# Altium integrated library Xilinx XC9500.IntLib: 208 symbols (part 13 of 16)
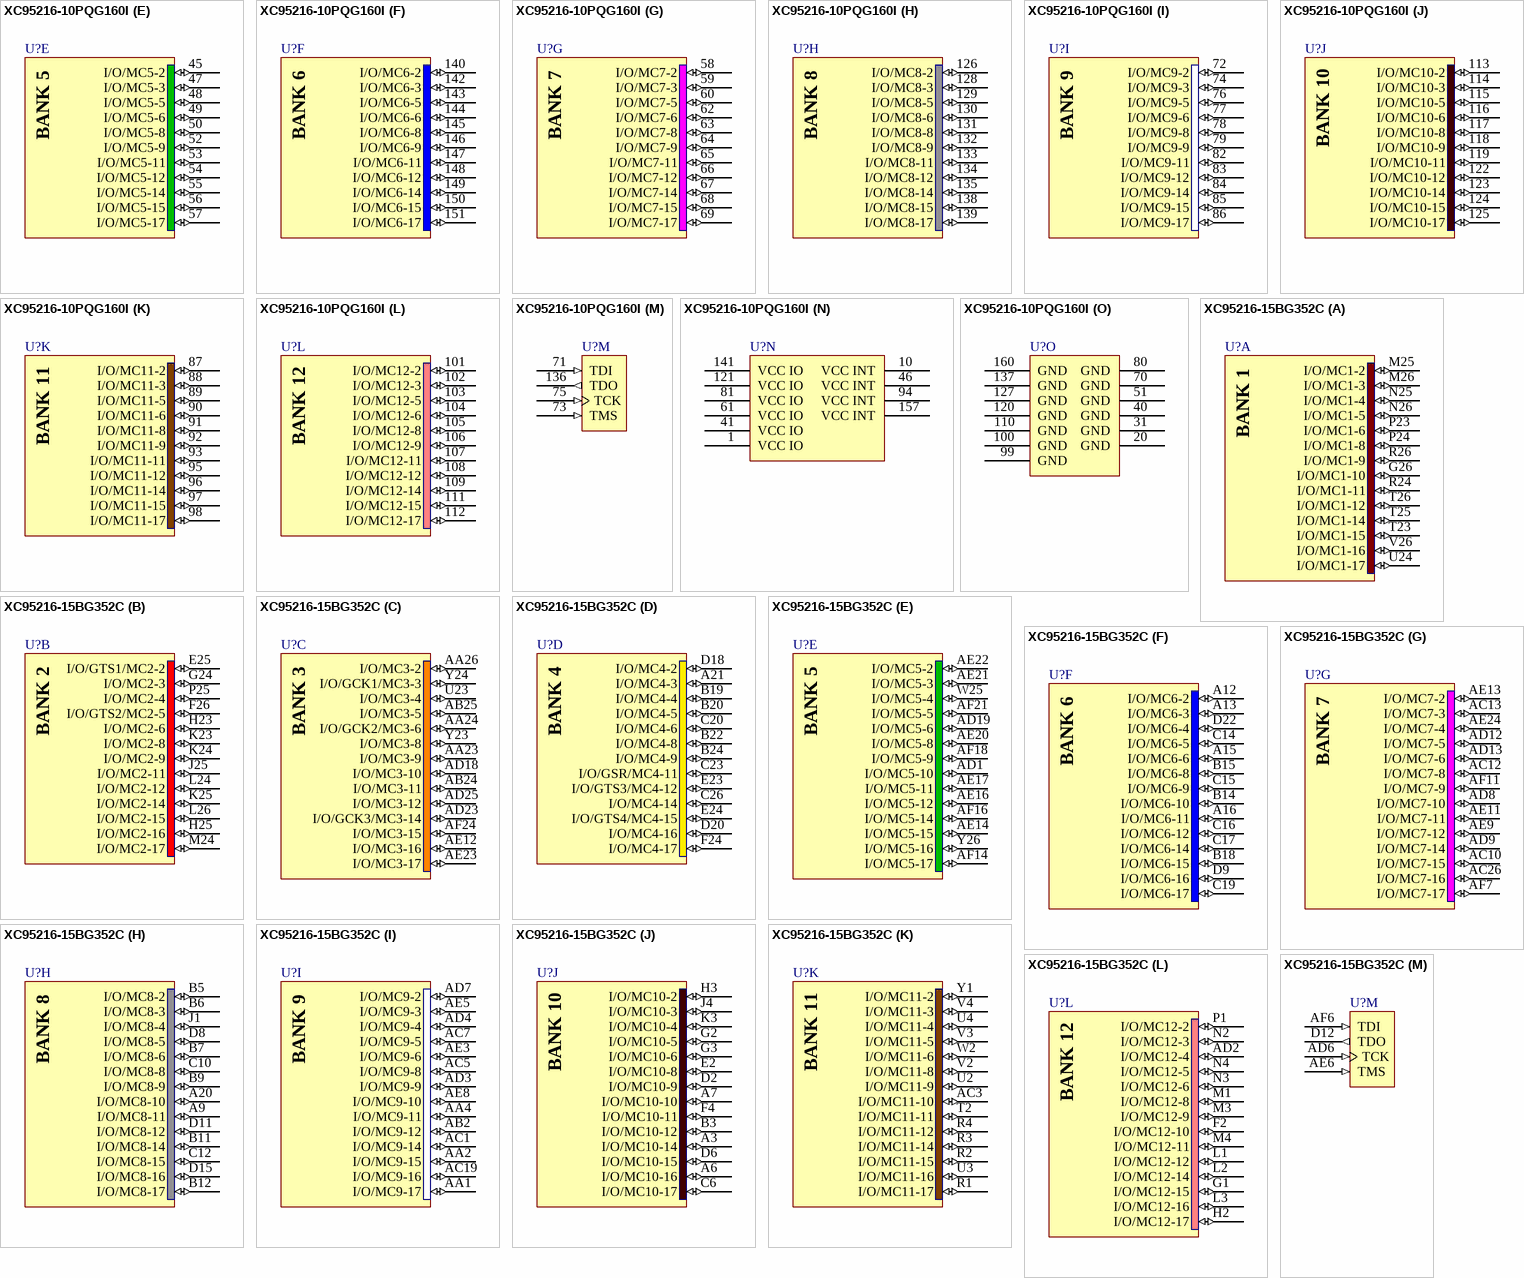
[diagram p85: symbols XC95216-10PQG160I to XC95216-15BG352C]

## XC95216-10PQG160I
designator U?
XC9500 5V, 216 Macrocell CPLD, 133 User I/Os, 160-Pin PQFP, Industrial Grade, Pb-Free; Published: 8-Sep-2006; LatestRevisionDate: 18-Nov-2009; LatestRevisionNote: Updated to family datasheet version 5.5 Jun-2007.; DatasheetVersion: ver4.4, Jun-2007; PackageVersion: ver1.2, Jun-2004; PackageReference: PQG160; Publisher: Altium Limited; PackageDescription: 160-Pin Plastic Quad Flat Pack (PQG160) - Pb-Free; Code_JEDEC: MS-022-DD1; Code_IPC: QFP65P3120X3120-160; ComponentLink1Description: XC95216 Datasheet; ComponentLink1URL: http://www.xilinx.com/support/documentation/data_sheets/ds068.pdf; ComponentLink2Description: PQG160 Package Drawing; ComponentLink2URL: http://www.xilinx.com/support/documentation/package_specs/pq160.pdf; ComponentLink3Description: XC9500 Documents; ComponentLink3URL: http://www.xilinx.com/support/documentation/xc9500.htm; ComponentLink4Description: Xilinx.com Home; ComponentLink4URL: http://www.xilinx.com
footprint PQG160_N (QFP, 160-Leads, Body 28x28mm, Pitch 0.65mm, IPC Medium Density)
footprint PQG160_L (QFP, 160-Leads, Body 28x28mm, Pitch 0.65mm, IPC High Density)
footprint PQG160_M (QFP, 160-Leads, Body 28x28mm, Pitch 0.65mm, IPC Low Density)
signal-integrity model XC95216_PQG160 (XC9500)
part A pins: 18 I/O/MC1-2 (io), 19 I/O/MC1-3 (io), 21 I/O/MC1-5 (io), 22 I/O/MC1-6 (io), 23 I/O/MC1-8 (io), 24 I/O/MC1-9 (io), 25 I/O/MC1-11 (io), 26 I/O/MC1-12 (io), 27 I/O/MC1-14 (io), 28 I/O/MC1-15 (io), 29 I/O/MC1-16 (io), 30 I/O/MC1-17 (io)
part B pins: 6 I/O/GTS1/MC2-2 (io), 7 I/O/MC2-3 (io), 8 I/O/GTS2/MC2-5 (io), 9 I/O/MC2-6 (io), 11 I/O/MC2-8 (io), 12 I/O/MC2-9 (io), 13 I/O/MC2-11 (io), 14 I/O/MC2-12 (io), 15 I/O/MC2-14 (io), 16 I/O/MC2-15 (io), 17 I/O/MC2-17 (io)
part C pins: 32 I/O/MC3-2 (io), 33 I/O/GCK1/MC3-3 (io), 34 I/O/MC3-5 (io), 35 I/O/GCK2/MC3-6 (io), 36 I/O/MC3-8 (io), 37 I/O/MC3-9 (io), 38 I/O/MC3-11 (io), 39 I/O/MC3-12 (io), 42 I/O/GCK3/MC3-14 (io), 43 I/O/MC3-15 (io), 44 I/O/MC3-17 (io)
part D pins: 2 I/O/GTS3/MC4-12 (io), 3 I/O/MC4-14 (io), 4 I/O/GTS4/MC4-15 (io), 5 I/O/MC4-17 (io), 152 I/O/MC4-2 (io), 153 I/O/MC4-3 (io), 154 I/O/MC4-5 (io), 155 I/O/MC4-6 (io), 156 I/O/MC4-8 (io), 158 I/O/MC4-9 (io), 159 I/O/GSR/MC4-11 (io)
part E pins: 45 I/O/MC5-2 (io), 47 I/O/MC5-3 (io), 48 I/O/MC5-5 (io), 49 I/O/MC5-6 (io), 50 I/O/MC5-8 (io), 52 I/O/MC5-9 (io), 53 I/O/MC5-11 (io), 54 I/O/MC5-12 (io), 55 I/O/MC5-14 (io), 56 I/O/MC5-15 (io), 57 I/O/MC5-17 (io)
part F pins: 140 I/O/MC6-2 (io), 142 I/O/MC6-3 (io), 143 I/O/MC6-5 (io), 144 I/O/MC6-6 (io), 145 I/O/MC6-8 (io), 146 I/O/MC6-9 (io), 147 I/O/MC6-11 (io), 148 I/O/MC6-12 (io), 149 I/O/MC6-14 (io), 150 I/O/MC6-15 (io), 151 I/O/MC6-17 (io)
part G pins: 58 I/O/MC7-2 (io), 59 I/O/MC7-3 (io), 60 I/O/MC7-5 (io), 62 I/O/MC7-6 (io), 63 I/O/MC7-8 (io), 64 I/O/MC7-9 (io), 65 I/O/MC7-11 (io), 66 I/O/MC7-12 (io), 67 I/O/MC7-14 (io), 68 I/O/MC7-15 (io), 69 I/O/MC7-17 (io)
part H pins: 126 I/O/MC8-2 (io), 128 I/O/MC8-3 (io), 129 I/O/MC8-5 (io), 130 I/O/MC8-6 (io), 131 I/O/MC8-8 (io), 132 I/O/MC8-9 (io), 133 I/O/MC8-11 (io), 134 I/O/MC8-12 (io), 135 I/O/MC8-14 (io), 138 I/O/MC8-15 (io), 139 I/O/MC8-17 (io)
part I pins: 72 I/O/MC9-2 (io), 74 I/O/MC9-3 (io), 76 I/O/MC9-5 (io), 77 I/O/MC9-6 (io), 78 I/O/MC9-8 (io), 79 I/O/MC9-9 (io), 82 I/O/MC9-11 (io), 83 I/O/MC9-12 (io), 84 I/O/MC9-14 (io), 85 I/O/MC9-15 (io), 86 I/O/MC9-17 (io)
part J pins: 113 I/O/MC10-2 (io), 114 I/O/MC10-3 (io), 115 I/O/MC10-5 (io), 116 I/O/MC10-6 (io), 117 I/O/MC10-8 (io), 118 I/O/MC10-9 (io), 119 I/O/MC10-11 (io), 122 I/O/MC10-12 (io), 123 I/O/MC10-14 (io), 124 I/O/MC10-15 (io), 125 I/O/MC10-17 (io)
part K pins: 87 I/O/MC11-2 (io), 88 I/O/MC11-3 (io), 89 I/O/MC11-5 (io), 90 I/O/MC11-6 (io), 91 I/O/MC11-8 (io), 92 I/O/MC11-9 (io), 93 I/O/MC11-11 (io), 95 I/O/MC11-12 (io), 96 I/O/MC11-14 (io), 97 I/O/MC11-15 (io), 98 I/O/MC11-17 (io)
part L pins: 101 I/O/MC12-2 (io), 102 I/O/MC12-3 (io), 103 I/O/MC12-5 (io), 104 I/O/MC12-6 (io), 105 I/O/MC12-8 (io), 106 I/O/MC12-9 (io), 107 I/O/MC12-11 (io), 108 I/O/MC12-12 (io), 109 I/O/MC12-14 (io), 111 I/O/MC12-15 (io), 112 I/O/MC12-17 (io)
part M pins: 71 TDI (in), 73 TMS (in), 75 TCK (in), 136 TDO (out)
part N pins: 1 VCC IO (power), 10 VCC INT (power), 41 VCC IO (power), 46 VCC INT (power), 61 VCC IO (power), 81 VCC IO (power), 94 VCC INT (power), 121 VCC IO (power), 141 VCC IO (power), 157 VCC INT (power)
part O pins: 20 GND (power), 31 GND (power), 40 GND (power), 51 GND (power), 70 GND (power), 80 GND (power), 99 GND (power), 100 GND (power), 110 GND (power), 120 GND (power), 127 GND (power), 137 GND (power), 160 GND (power)
part A text: BANK 1
part B text: BANK 2
part C text: BANK 3
part D text: BANK 4
part E text: BANK 5
part F text: BANK 6
part G text: BANK 7
part H text: BANK 8
part I text: BANK 9
part J text: BANK 10
part K text: BANK 11
part L text: BANK 12

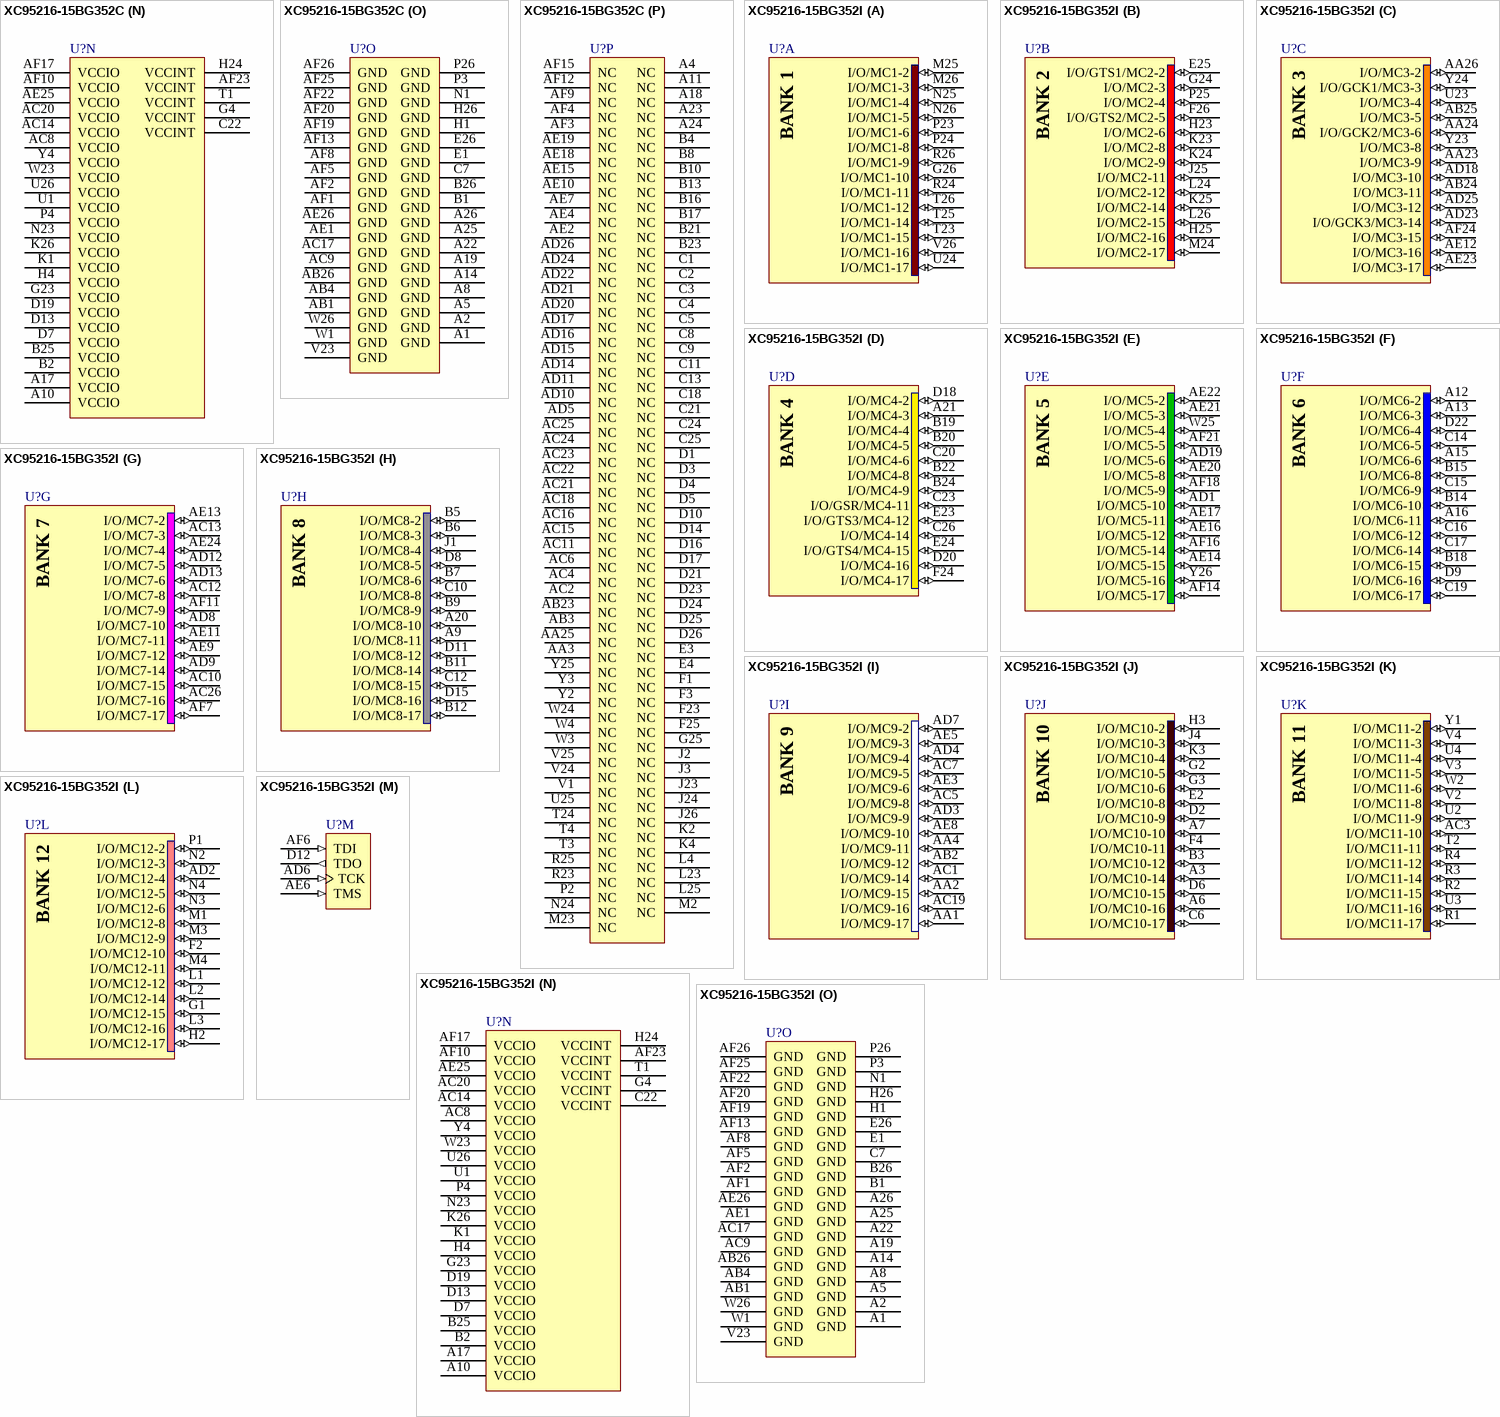
[diagram p58: symbols XC95216-15BG352C to XC95216-15BG352I]

## XC95216-15BG352C
designator U?
XC9500 5V, 216 Macrocell CPLD, 166 User I/Os, 352-Ball BGA, Commercial Grade; Published: 8-Jun-2000; LatestRevisionDate: 18-Nov-2009; LatestRevisionNote: Updated to family datasheet version 5.5 Jun-2007.; DatasheetVersion: ver4.4, Jun-2007; PackageVersion: ver1.1, Apr-2001; PackageReference: BG352; Publisher: Altium Limited; PackageDescription: 352-Ball Metal Ball Grid Array (BG352); Supplier 1: Digi-Key; Supplier Part Number 1: XC95216-15BG352C-ND; Code_JEDEC: MO-192-BAR-2; ComponentLink1Description: XC95216 Datasheet; ComponentLink1URL: http://www.xilinx.com/support/documentation/data_sheets/ds068.pdf; ComponentLink2Description: Discontinuation Notice; ComponentLink2URL: http://www.xilinx.com/support/documentation/customer_notices/xcn07010.pdf; ComponentLink3Description: BG352 Package Drawing; ComponentLink3URL: http://www.xilinx.com/support/documentation/package_specs/bg352.pdf; ComponentLink4Description: XC9500 Documents; ComponentLink4URL: http://www.xilinx.com/support/documentation/xc9500.htm; ComponentLink5Description: Xilinx.com Home; ComponentLink5URL: http://www.xilinx.com
footprint BG352 (BGA, 352-Leads, Body 35x35mm, Pitch 1.27mm)
signal-integrity model XC95216_BGA352 (XC9500)
part A pins: G26 I/O/MC1-10 (io), M25 I/O/MC1-2 (io), M26 I/O/MC1-3 (io), N25 I/O/MC1-4 (io), N26 I/O/MC1-5 (io), P23 I/O/MC1-6 (io), P24 I/O/MC1-8 (io), R24 I/O/MC1-11 (io), R26 I/O/MC1-9 (io), T23 I/O/MC1-15 (io), T25 I/O/MC1-14 (io), T26 I/O/MC1-12 (io), U24 I/O/MC1-17 (io), V26 I/O/MC1-16 (io)
part B pins: E25 I/O/GTS1/MC2-2 (io), F26 I/O/GTS2/MC2-5 (io), G24 I/O/MC2-3 (io), H23 I/O/MC2-6 (io), H25 I/O/MC2-16 (io), J25 I/O/MC2-11 (io), K23 I/O/MC2-8 (io), K24 I/O/MC2-9 (io), K25 I/O/MC2-14 (io), L24 I/O/MC2-12 (io), L26 I/O/MC2-15 (io), M24 I/O/MC2-17 (io), P25 I/O/MC2-4 (io)
part C pins: AA23 I/O/MC3-9 (io), AA24 I/O/GCK2/MC3-6 (io), AA26 I/O/MC3-2 (io), AB24 I/O/MC3-11 (io), AB25 I/O/MC3-5 (io), AD18 I/O/MC3-10 (io), AD23 I/O/GCK3/MC3-14 (io), AD25 I/O/MC3-12 (io), AE12 I/O/MC3-16 (io), AE23 I/O/MC3-17 (io), AF24 I/O/MC3-15 (io), U23 I/O/MC3-4 (io), Y23 I/O/MC3-8 (io), Y24 I/O/GCK1/MC3-3 (io)
part D pins: A21 I/O/MC4-3 (io), B19 I/O/MC4-4 (io), B20 I/O/MC4-5 (io), B22 I/O/MC4-8 (io), B24 I/O/MC4-9 (io), C20 I/O/MC4-6 (io), C23 I/O/GSR/MC4-11 (io), C26 I/O/MC4-14 (io), D18 I/O/MC4-2 (io), D20 I/O/MC4-16 (io), E23 I/O/GTS3/MC4-12 (io), E24 I/O/GTS4/MC4-15 (io), F24 I/O/MC4-17 (io)
part E pins: AD1 I/O/MC5-10 (io), AD19 I/O/MC5-6 (io), AE14 I/O/MC5-15 (io), AE16 I/O/MC5-12 (io), AE17 I/O/MC5-11 (io), AE20 I/O/MC5-8 (io), AE21 I/O/MC5-3 (io), AE22 I/O/MC5-2 (io), AF14 I/O/MC5-17 (io), AF16 I/O/MC5-14 (io), AF18 I/O/MC5-9 (io), AF21 I/O/MC5-5 (io), W25 I/O/MC5-4 (io), Y26 I/O/MC5-16 (io)
part F pins: A12 I/O/MC6-2 (io), A13 I/O/MC6-3 (io), A15 I/O/MC6-6 (io), A16 I/O/MC6-11 (io), B14 I/O/MC6-10 (io), B15 I/O/MC6-8 (io), B18 I/O/MC6-15 (io), C14 I/O/MC6-5 (io), C15 I/O/MC6-9 (io), C16 I/O/MC6-12 (io), C17 I/O/MC6-14 (io), C19 I/O/MC6-17 (io), D9 I/O/MC6-16 (io), D22 I/O/MC6-4 (io)
part G pins: AC10 I/O/MC7-15 (io), AC12 I/O/MC7-8 (io), AC13 I/O/MC7-3 (io), AC26 I/O/MC7-16 (io), AD8 I/O/MC7-10 (io), AD9 I/O/MC7-14 (io), AD12 I/O/MC7-5 (io), AD13 I/O/MC7-6 (io), AE9 I/O/MC7-12 (io), AE11 I/O/MC7-11 (io), AE13 I/O/MC7-2 (io), AE24 I/O/MC7-4 (io), AF7 I/O/MC7-17 (io), AF11 I/O/MC7-9 (io)
part H pins: A9 I/O/MC8-11 (io), A20 I/O/MC8-10 (io), B5 I/O/MC8-2 (io), B6 I/O/MC8-3 (io), B7 I/O/MC8-6 (io), B9 I/O/MC8-9 (io), B11 I/O/MC8-14 (io), B12 I/O/MC8-17 (io), C10 I/O/MC8-8 (io), C12 I/O/MC8-15 (io), D8 I/O/MC8-5 (io), D11 I/O/MC8-12 (io), D15 I/O/MC8-16 (io), J1 I/O/MC8-4 (io)
part I pins: AA1 I/O/MC9-17 (io), AA2 I/O/MC9-15 (io), AA4 I/O/MC9-11 (io), AB2 I/O/MC9-12 (io), AC1 I/O/MC9-14 (io), AC5 I/O/MC9-8 (io), AC7 I/O/MC9-5 (io), AC19 I/O/MC9-16 (io), AD3 I/O/MC9-9 (io), AD4 I/O/MC9-4 (io), AD7 I/O/MC9-2 (io), AE3 I/O/MC9-6 (io), AE5 I/O/MC9-3 (io), AE8 I/O/MC9-10 (io)
part J pins: A3 I/O/MC10-14 (io), A6 I/O/MC10-16 (io), A7 I/O/MC10-10 (io), B3 I/O/MC10-12 (io), C6 I/O/MC10-17 (io), D2 I/O/MC10-9 (io), D6 I/O/MC10-15 (io), E2 I/O/MC10-8 (io), F4 I/O/MC10-11 (io), G2 I/O/MC10-5 (io), G3 I/O/MC10-6 (io), H3 I/O/MC10-2 (io), J4 I/O/MC10-3 (io), K3 I/O/MC10-4 (io)
part K pins: AC3 I/O/MC11-10 (io), R1 I/O/MC11-17 (io), R2 I/O/MC11-15 (io), R3 I/O/MC11-14 (io), R4 I/O/MC11-12 (io), T2 I/O/MC11-11 (io), U2 I/O/MC11-9 (io), U3 I/O/MC11-16 (io), U4 I/O/MC11-4 (io), V2 I/O/MC11-8 (io), V3 I/O/MC11-5 (io), V4 I/O/MC11-3 (io), W2 I/O/MC11-6 (io), Y1 I/O/MC11-2 (io)
part L pins: AD2 I/O/MC12-4 (io), F2 I/O/MC12-10 (io), G1 I/O/MC12-15 (io), H2 I/O/MC12-17 (io), L1 I/O/MC12-12 (io), L2 I/O/MC12-14 (io), L3 I/O/MC12-16 (io), M1 I/O/MC12-8 (io), M3 I/O/MC12-9 (io), M4 I/O/MC12-11 (io), N2 I/O/MC12-3 (io), N3 I/O/MC12-6 (io), N4 I/O/MC12-5 (io), P1 I/O/MC12-2 (io)
part M pins: AD6 TCK (in), AE6 TMS (in), AF6 TDI (in), D12 TDO (out)
part N pins: A10 VCCIO (power), A17 VCCIO (power), AC8 VCCIO (power), AC14 VCCIO (power), AC20 VCCIO (power), AE25 VCCIO (power), AF10 VCCIO (power), AF17 VCCIO (power), AF23 VCCINT (power), B2 VCCIO (power), B25 VCCIO (power), C22 VCCINT (power), D7 VCCIO (power), D13 VCCIO (power), D19 VCCIO (power), G4 VCCINT (power), G23 VCCIO (power), H4 VCCIO (power), H24 VCCINT (power), K1 VCCIO (power), K26 VCCIO (power), N23 VCCIO (power), P4 VCCIO (power), T1 VCCINT (power), U1 VCCIO (power), U26 VCCIO (power), W23 VCCIO (power), Y4 VCCIO (power)
part O pins: A1 GND (power), A2 GND (power), A5 GND (power), A8 GND (power), A14 GND (power), A19 GND (power), A22 GND (power), A25 GND (power), A26 GND (power), AB1 GND (power), AB4 GND (power), AB26 GND (power), AC9 GND (power), AC17 GND (power), AE1 GND (power), AE26 GND (power), AF1 GND (power), AF2 GND (power), AF5 GND (power), AF8 GND (power), AF13 GND (power), AF19 GND (power), AF20 GND (power), AF22 GND (power), AF25 GND (power), AF26 GND (power), B1 GND (power), B26 GND (power), C7 GND (power), E1 GND (power), E26 GND (power), H1 GND (power), H26 GND (power), N1 GND (power), P3 GND (power), P26 GND (power), V23 GND (power), W1 GND (power), W26 GND (power)
part P pins: A4 NC, A11 NC, A18 NC, A23 NC, A24 NC, AA3 NC, AA25 NC, AB3 NC, AB23 NC, AC2 NC, AC4 NC, AC6 NC, AC11 NC, AC15 NC, AC16 NC, AC18 NC, AC21 NC, AC22 NC, AC23 NC, AC24 NC, AC25 NC, AD5 NC, AD10 NC, AD11 NC, AD14 NC, AD15 NC, AD16 NC, AD17 NC, AD20 NC, AD21 NC, AD22 NC, AD24 NC, AD26 NC, AE2 NC, AE4 NC, AE7 NC, AE10 NC, AE15 NC, AE18 NC, AE19 NC, AF3 NC, AF4 NC, AF9 NC, AF12 NC, AF15 NC, B4 NC, B8 NC, B10 NC, B13 NC, B16 NC, B17 NC, B21 NC, B23 NC, C1 NC, C2 NC, C3 NC, C4 NC, C5 NC, C8 NC, C9 NC, C11 NC, C13 NC, C18 NC, C21 NC, C24 NC, C25 NC, D1 NC, D3 NC, D4 NC, D5 NC, D10 NC, D14 NC, D16 NC, D17 NC, D21 NC, D23 NC, D24 NC, D25 NC, D26 NC, E3 NC, E4 NC, F1 NC, F3 NC, F23 NC, F25 NC, G25 NC, J2 NC, J3 NC, J23 NC, J24 NC, J26 NC, K2 NC, K4 NC, L4 NC, L23 NC, L25 NC, M2 NC, M23 NC, N24 NC, P2 NC, R23 NC, R25 NC, T3 NC, T4 NC, T24 NC, U25 NC, V1 NC, V24 NC, V25 NC, W3 NC, W4 NC, W24 NC, Y2 NC, Y3 NC, Y25 NC
part A text: BANK 1
part B text: BANK 2
part C text: BANK 3
part D text: BANK 4
part E text: BANK 5
part F text: BANK 6
part G text: BANK 7
part H text: BANK 8
part I text: BANK 9
part J text: BANK 10
part K text: BANK 11
part L text: BANK 12

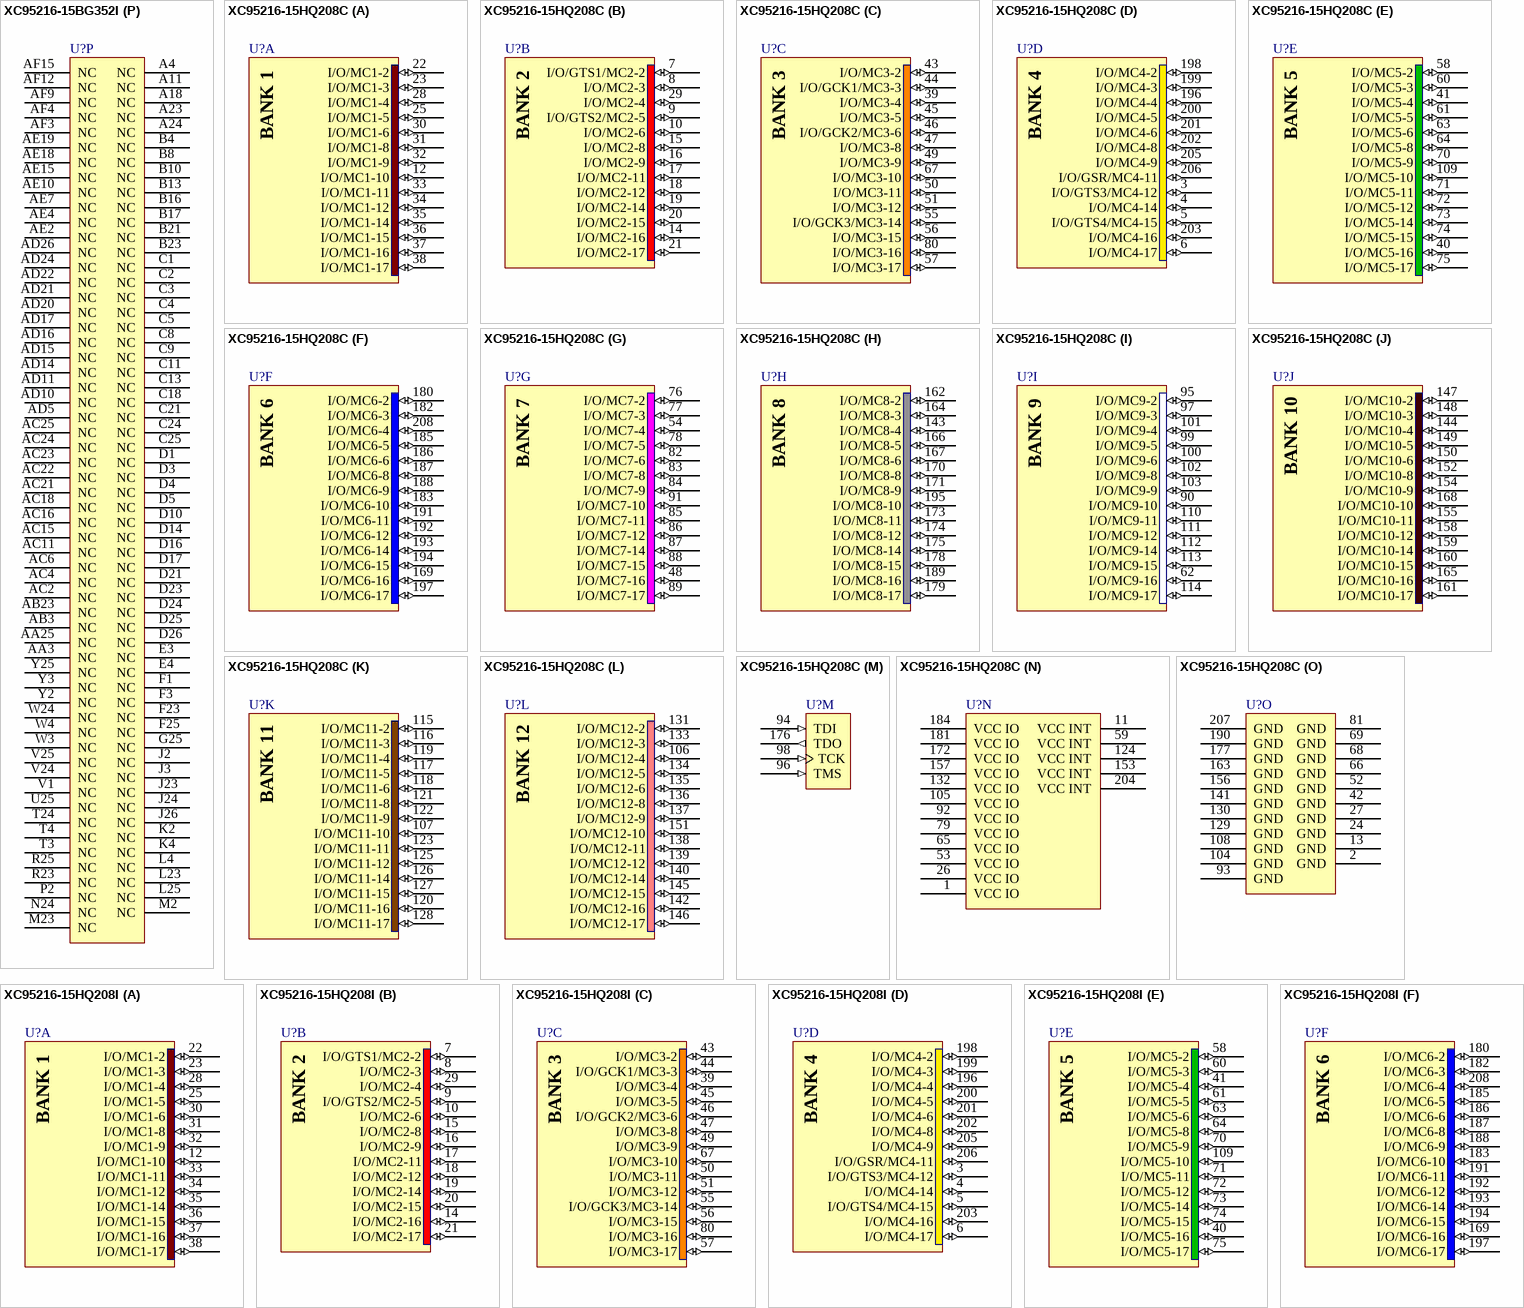
[diagram p59: symbols XC95216-15BG352I to XC95216-15HQ208I]

## XC95216-15BG352I
designator U?
XC9500 5V, 216 Macrocell CPLD, 166 User I/Os, 352-Ball BGA, Industrial Grade; Published: 8-Jun-2000; LatestRevisionDate: 18-Nov-2009; LatestRevisionNote: Updated to family datasheet version 5.5 Jun-2007.; DatasheetVersion: ver4.4, Jun-2007; PackageVersion: ver1.1, Apr-2001; PackageReference: BG352; Publisher: Altium Limited; PackageDescription: 352-Ball Metal Ball Grid Array (BG352); Supplier 1: Digi-Key; Supplier Part Number 1: XC95216-15BG352I-ND; Code_JEDEC: MO-192-BAR-2; ComponentLink1Description: XC95216 Datasheet; ComponentLink1URL: http://www.xilinx.com/support/documentation/data_sheets/ds068.pdf; ComponentLink2Description: Discontinuation Notice; ComponentLink2URL: http://www.xilinx.com/support/documentation/customer_notices/xcn07010.pdf; ComponentLink3Description: BG352 Package Drawing; ComponentLink3URL: http://www.xilinx.com/support/documentation/package_specs/bg352.pdf; ComponentLink4Description: XC9500 Documents; ComponentLink4URL: http://www.xilinx.com/support/documentation/xc9500.htm; ComponentLink5Description: Xilinx.com Home; ComponentLink5URL: http://www.xilinx.com
footprint BG352 (BGA, 352-Leads, Body 35x35mm, Pitch 1.27mm)
signal-integrity model XC95216_BGA352 (XC9500)
part A pins: G26 I/O/MC1-10 (io), M25 I/O/MC1-2 (io), M26 I/O/MC1-3 (io), N25 I/O/MC1-4 (io), N26 I/O/MC1-5 (io), P23 I/O/MC1-6 (io), P24 I/O/MC1-8 (io), R24 I/O/MC1-11 (io), R26 I/O/MC1-9 (io), T23 I/O/MC1-15 (io), T25 I/O/MC1-14 (io), T26 I/O/MC1-12 (io), U24 I/O/MC1-17 (io), V26 I/O/MC1-16 (io)
part B pins: E25 I/O/GTS1/MC2-2 (io), F26 I/O/GTS2/MC2-5 (io), G24 I/O/MC2-3 (io), H23 I/O/MC2-6 (io), H25 I/O/MC2-16 (io), J25 I/O/MC2-11 (io), K23 I/O/MC2-8 (io), K24 I/O/MC2-9 (io), K25 I/O/MC2-14 (io), L24 I/O/MC2-12 (io), L26 I/O/MC2-15 (io), M24 I/O/MC2-17 (io), P25 I/O/MC2-4 (io)
part C pins: AA23 I/O/MC3-9 (io), AA24 I/O/GCK2/MC3-6 (io), AA26 I/O/MC3-2 (io), AB24 I/O/MC3-11 (io), AB25 I/O/MC3-5 (io), AD18 I/O/MC3-10 (io), AD23 I/O/GCK3/MC3-14 (io), AD25 I/O/MC3-12 (io), AE12 I/O/MC3-16 (io), AE23 I/O/MC3-17 (io), AF24 I/O/MC3-15 (io), U23 I/O/MC3-4 (io), Y23 I/O/MC3-8 (io), Y24 I/O/GCK1/MC3-3 (io)
part D pins: A21 I/O/MC4-3 (io), B19 I/O/MC4-4 (io), B20 I/O/MC4-5 (io), B22 I/O/MC4-8 (io), B24 I/O/MC4-9 (io), C20 I/O/MC4-6 (io), C23 I/O/GSR/MC4-11 (io), C26 I/O/MC4-14 (io), D18 I/O/MC4-2 (io), D20 I/O/MC4-16 (io), E23 I/O/GTS3/MC4-12 (io), E24 I/O/GTS4/MC4-15 (io), F24 I/O/MC4-17 (io)
part E pins: AD1 I/O/MC5-10 (io), AD19 I/O/MC5-6 (io), AE14 I/O/MC5-15 (io), AE16 I/O/MC5-12 (io), AE17 I/O/MC5-11 (io), AE20 I/O/MC5-8 (io), AE21 I/O/MC5-3 (io), AE22 I/O/MC5-2 (io), AF14 I/O/MC5-17 (io), AF16 I/O/MC5-14 (io), AF18 I/O/MC5-9 (io), AF21 I/O/MC5-5 (io), W25 I/O/MC5-4 (io), Y26 I/O/MC5-16 (io)
part F pins: A12 I/O/MC6-2 (io), A13 I/O/MC6-3 (io), A15 I/O/MC6-6 (io), A16 I/O/MC6-11 (io), B14 I/O/MC6-10 (io), B15 I/O/MC6-8 (io), B18 I/O/MC6-15 (io), C14 I/O/MC6-5 (io), C15 I/O/MC6-9 (io), C16 I/O/MC6-12 (io), C17 I/O/MC6-14 (io), C19 I/O/MC6-17 (io), D9 I/O/MC6-16 (io), D22 I/O/MC6-4 (io)
part G pins: AC10 I/O/MC7-15 (io), AC12 I/O/MC7-8 (io), AC13 I/O/MC7-3 (io), AC26 I/O/MC7-16 (io), AD8 I/O/MC7-10 (io), AD9 I/O/MC7-14 (io), AD12 I/O/MC7-5 (io), AD13 I/O/MC7-6 (io), AE9 I/O/MC7-12 (io), AE11 I/O/MC7-11 (io), AE13 I/O/MC7-2 (io), AE24 I/O/MC7-4 (io), AF7 I/O/MC7-17 (io), AF11 I/O/MC7-9 (io)
part H pins: A9 I/O/MC8-11 (io), A20 I/O/MC8-10 (io), B5 I/O/MC8-2 (io), B6 I/O/MC8-3 (io), B7 I/O/MC8-6 (io), B9 I/O/MC8-9 (io), B11 I/O/MC8-14 (io), B12 I/O/MC8-17 (io), C10 I/O/MC8-8 (io), C12 I/O/MC8-15 (io), D8 I/O/MC8-5 (io), D11 I/O/MC8-12 (io), D15 I/O/MC8-16 (io), J1 I/O/MC8-4 (io)
part I pins: AA1 I/O/MC9-17 (io), AA2 I/O/MC9-15 (io), AA4 I/O/MC9-11 (io), AB2 I/O/MC9-12 (io), AC1 I/O/MC9-14 (io), AC5 I/O/MC9-8 (io), AC7 I/O/MC9-5 (io), AC19 I/O/MC9-16 (io), AD3 I/O/MC9-9 (io), AD4 I/O/MC9-4 (io), AD7 I/O/MC9-2 (io), AE3 I/O/MC9-6 (io), AE5 I/O/MC9-3 (io), AE8 I/O/MC9-10 (io)
part J pins: A3 I/O/MC10-14 (io), A6 I/O/MC10-16 (io), A7 I/O/MC10-10 (io), B3 I/O/MC10-12 (io), C6 I/O/MC10-17 (io), D2 I/O/MC10-9 (io), D6 I/O/MC10-15 (io), E2 I/O/MC10-8 (io), F4 I/O/MC10-11 (io), G2 I/O/MC10-5 (io), G3 I/O/MC10-6 (io), H3 I/O/MC10-2 (io), J4 I/O/MC10-3 (io), K3 I/O/MC10-4 (io)
part K pins: AC3 I/O/MC11-10 (io), R1 I/O/MC11-17 (io), R2 I/O/MC11-15 (io), R3 I/O/MC11-14 (io), R4 I/O/MC11-12 (io), T2 I/O/MC11-11 (io), U2 I/O/MC11-9 (io), U3 I/O/MC11-16 (io), U4 I/O/MC11-4 (io), V2 I/O/MC11-8 (io), V3 I/O/MC11-5 (io), V4 I/O/MC11-3 (io), W2 I/O/MC11-6 (io), Y1 I/O/MC11-2 (io)
part L pins: AD2 I/O/MC12-4 (io), F2 I/O/MC12-10 (io), G1 I/O/MC12-15 (io), H2 I/O/MC12-17 (io), L1 I/O/MC12-12 (io), L2 I/O/MC12-14 (io), L3 I/O/MC12-16 (io), M1 I/O/MC12-8 (io), M3 I/O/MC12-9 (io), M4 I/O/MC12-11 (io), N2 I/O/MC12-3 (io), N3 I/O/MC12-6 (io), N4 I/O/MC12-5 (io), P1 I/O/MC12-2 (io)
part M pins: AD6 TCK (in), AE6 TMS (in), AF6 TDI (in), D12 TDO (out)
part N pins: A10 VCCIO (power), A17 VCCIO (power), AC8 VCCIO (power), AC14 VCCIO (power), AC20 VCCIO (power), AE25 VCCIO (power), AF10 VCCIO (power), AF17 VCCIO (power), AF23 VCCINT (power), B2 VCCIO (power), B25 VCCIO (power), C22 VCCINT (power), D7 VCCIO (power), D13 VCCIO (power), D19 VCCIO (power), G4 VCCINT (power), G23 VCCIO (power), H4 VCCIO (power), H24 VCCINT (power), K1 VCCIO (power), K26 VCCIO (power), N23 VCCIO (power), P4 VCCIO (power), T1 VCCINT (power), U1 VCCIO (power), U26 VCCIO (power), W23 VCCIO (power), Y4 VCCIO (power)
part O pins: A1 GND (power), A2 GND (power), A5 GND (power), A8 GND (power), A14 GND (power), A19 GND (power), A22 GND (power), A25 GND (power), A26 GND (power), AB1 GND (power), AB4 GND (power), AB26 GND (power), AC9 GND (power), AC17 GND (power), AE1 GND (power), AE26 GND (power), AF1 GND (power), AF2 GND (power), AF5 GND (power), AF8 GND (power), AF13 GND (power), AF19 GND (power), AF20 GND (power), AF22 GND (power), AF25 GND (power), AF26 GND (power), B1 GND (power), B26 GND (power), C7 GND (power), E1 GND (power), E26 GND (power), H1 GND (power), H26 GND (power), N1 GND (power), P3 GND (power), P26 GND (power), V23 GND (power), W1 GND (power), W26 GND (power)
part P pins: A4 NC, A11 NC, A18 NC, A23 NC, A24 NC, AA3 NC, AA25 NC, AB3 NC, AB23 NC, AC2 NC, AC4 NC, AC6 NC, AC11 NC, AC15 NC, AC16 NC, AC18 NC, AC21 NC, AC22 NC, AC23 NC, AC24 NC, AC25 NC, AD5 NC, AD10 NC, AD11 NC, AD14 NC, AD15 NC, AD16 NC, AD17 NC, AD20 NC, AD21 NC, AD22 NC, AD24 NC, AD26 NC, AE2 NC, AE4 NC, AE7 NC, AE10 NC, AE15 NC, AE18 NC, AE19 NC, AF3 NC, AF4 NC, AF9 NC, AF12 NC, AF15 NC, B4 NC, B8 NC, B10 NC, B13 NC, B16 NC, B17 NC, B21 NC, B23 NC, C1 NC, C2 NC, C3 NC, C4 NC, C5 NC, C8 NC, C9 NC, C11 NC, C13 NC, C18 NC, C21 NC, C24 NC, C25 NC, D1 NC, D3 NC, D4 NC, D5 NC, D10 NC, D14 NC, D16 NC, D17 NC, D21 NC, D23 NC, D24 NC, D25 NC, D26 NC, E3 NC, E4 NC, F1 NC, F3 NC, F23 NC, F25 NC, G25 NC, J2 NC, J3 NC, J23 NC, J24 NC, J26 NC, K2 NC, K4 NC, L4 NC, L23 NC, L25 NC, M2 NC, M23 NC, N24 NC, P2 NC, R23 NC, R25 NC, T3 NC, T4 NC, T24 NC, U25 NC, V1 NC, V24 NC, V25 NC, W3 NC, W4 NC, W24 NC, Y2 NC, Y3 NC, Y25 NC
part A text: BANK 1
part B text: BANK 2
part C text: BANK 3
part D text: BANK 4
part E text: BANK 5
part F text: BANK 6
part G text: BANK 7
part H text: BANK 8
part I text: BANK 9
part J text: BANK 10
part K text: BANK 11
part L text: BANK 12

## XC95216-15HQ208C
designator U?
XC9500 5V, 216 Macrocell CPLD, 166 User I/Os, 208-Pin HQFP, Commercial Grade; Published: 8-Jun-2000; LatestRevisionDate: 18-Nov-2009; LatestRevisionNote: Updated to family datasheet version 5.5 Jun-2007.; DatasheetVersion: ver4.4, Jun-2007; PackageVersion: ver1.2, Jun-2004; PackageReference: HQ208; Publisher: Altium Limited; PackageDescription: 208-Pin Heat Sink Quad Flat Pack (HQ208); Supplier 1: Digi-Key; Supplier Part Number 1: XC95216-15HQ208C-ND; Code_JEDEC: MS-029-FA-1; ComponentLink1Description: XC95216 Datasheet; ComponentLink1URL: http://www.xilinx.com/support/documentation/data_sheets/ds068.pdf; ComponentLink2Description: Discontinuation Notice; ComponentLink2URL: http://www.xilinx.com/support/documentation/customer_notices/xcn09001.pdf; ComponentLink3Description: HQ208 Package Drawing; ComponentLink3URL: http://www.xilinx.com/support/documentation/package_specs/hq208.pdf; ComponentLink4Description: XC9500 Documents; ComponentLink4URL: http://www.xilinx.com/support/documentation/xc9500.htm; ComponentLink5Description: Xilinx.com Home; ComponentLink5URL: http://www.xilinx.com
footprint HQ208_N (Shrink QFP, 208-Leads, Body 28x28mm, Pitch 0.5mm, IPC Medium Density)
footprint HQ208_L (Shrink QFP, 208-Leads, Body 28x28mm, Pitch 0.5mm, IPC High Density)
footprint HQ208_M (Shrink QFP, 208-Leads, Body 28x28mm, Pitch 0.5mm, IPC Low Density)
signal-integrity model XC95216_HQ208 (XC9500)
part A pins: 12 I/O/MC1-10 (io), 22 I/O/MC1-2 (io), 23 I/O/MC1-3 (io), 25 I/O/MC1-5 (io), 28 I/O/MC1-4 (io), 30 I/O/MC1-6 (io), 31 I/O/MC1-8 (io), 32 I/O/MC1-9 (io), 33 I/O/MC1-11 (io), 34 I/O/MC1-12 (io), 35 I/O/MC1-14 (io), 36 I/O/MC1-15 (io), 37 I/O/MC1-16 (io), 38 I/O/MC1-17 (io)
part B pins: 7 I/O/GTS1/MC2-2 (io), 8 I/O/MC2-3 (io), 9 I/O/GTS2/MC2-5 (io), 10 I/O/MC2-6 (io), 14 I/O/MC2-16 (io), 15 I/O/MC2-8 (io), 16 I/O/MC2-9 (io), 17 I/O/MC2-11 (io), 18 I/O/MC2-12 (io), 19 I/O/MC2-14 (io), 20 I/O/MC2-15 (io), 21 I/O/MC2-17 (io), 29 I/O/MC2-4 (io)
part C pins: 39 I/O/MC3-4 (io), 43 I/O/MC3-2 (io), 44 I/O/GCK1/MC3-3 (io), 45 I/O/MC3-5 (io), 46 I/O/GCK2/MC3-6 (io), 47 I/O/MC3-8 (io), 49 I/O/MC3-9 (io), 50 I/O/MC3-11 (io), 51 I/O/MC3-12 (io), 55 I/O/GCK3/MC3-14 (io), 56 I/O/MC3-15 (io), 57 I/O/MC3-17 (io), 67 I/O/MC3-10 (io), 80 I/O/MC3-16 (io)
part D pins: 3 I/O/GTS3/MC4-12 (io), 4 I/O/MC4-14 (io), 5 I/O/GTS4/MC4-15 (io), 6 I/O/MC4-17 (io), 196 I/O/MC4-4 (io), 198 I/O/MC4-2 (io), 199 I/O/MC4-3 (io), 200 I/O/MC4-5 (io), 201 I/O/MC4-6 (io), 202 I/O/MC4-8 (io), 203 I/O/MC4-16 (io), 205 I/O/MC4-9 (io), 206 I/O/GSR/MC4-11 (io)
part E pins: 40 I/O/MC5-16 (io), 41 I/O/MC5-4 (io), 58 I/O/MC5-2 (io), 60 I/O/MC5-3 (io), 61 I/O/MC5-5 (io), 63 I/O/MC5-6 (io), 64 I/O/MC5-8 (io), 70 I/O/MC5-9 (io), 71 I/O/MC5-11 (io), 72 I/O/MC5-12 (io), 73 I/O/MC5-14 (io), 74 I/O/MC5-15 (io), 75 I/O/MC5-17 (io), 109 I/O/MC5-10 (io)
part F pins: 169 I/O/MC6-16 (io), 180 I/O/MC6-2 (io), 182 I/O/MC6-3 (io), 183 I/O/MC6-10 (io), 185 I/O/MC6-5 (io), 186 I/O/MC6-6 (io), 187 I/O/MC6-8 (io), 188 I/O/MC6-9 (io), 191 I/O/MC6-11 (io), 192 I/O/MC6-12 (io), 193 I/O/MC6-14 (io), 194 I/O/MC6-15 (io), 197 I/O/MC6-17 (io), 208 I/O/MC6-4 (io)
part G pins: 48 I/O/MC7-16 (io), 54 I/O/MC7-4 (io), 76 I/O/MC7-2 (io), 77 I/O/MC7-3 (io), 78 I/O/MC7-5 (io), 82 I/O/MC7-6 (io), 83 I/O/MC7-8 (io), 84 I/O/MC7-9 (io), 85 I/O/MC7-11 (io), 86 I/O/MC7-12 (io), 87 I/O/MC7-14 (io), 88 I/O/MC7-15 (io), 89 I/O/MC7-17 (io), 91 I/O/MC7-10 (io)
part H pins: 143 I/O/MC8-4 (io), 162 I/O/MC8-2 (io), 164 I/O/MC8-3 (io), 166 I/O/MC8-5 (io), 167 I/O/MC8-6 (io), 170 I/O/MC8-8 (io), 171 I/O/MC8-9 (io), 173 I/O/MC8-11 (io), 174 I/O/MC8-12 (io), 175 I/O/MC8-14 (io), 178 I/O/MC8-15 (io), 179 I/O/MC8-17 (io), 189 I/O/MC8-16 (io), 195 I/O/MC8-10 (io)
part I pins: 62 I/O/MC9-16 (io), 90 I/O/MC9-10 (io), 95 I/O/MC9-2 (io), 97 I/O/MC9-3 (io), 99 I/O/MC9-5 (io), 100 I/O/MC9-6 (io), 101 I/O/MC9-4 (io), 102 I/O/MC9-8 (io), 103 I/O/MC9-9 (io), 110 I/O/MC9-11 (io), 111 I/O/MC9-12 (io), 112 I/O/MC9-14 (io), 113 I/O/MC9-15 (io), 114 I/O/MC9-17 (io)
part J pins: 144 I/O/MC10-4 (io), 147 I/O/MC10-2 (io), 148 I/O/MC10-3 (io), 149 I/O/MC10-5 (io), 150 I/O/MC10-6 (io), 152 I/O/MC10-8 (io), 154 I/O/MC10-9 (io), 155 I/O/MC10-11 (io), 158 I/O/MC10-12 (io), 159 I/O/MC10-14 (io), 160 I/O/MC10-15 (io), 161 I/O/MC10-17 (io), 165 I/O/MC10-16 (io), 168 I/O/MC10-10 (io)
part K pins: 107 I/O/MC11-10 (io), 115 I/O/MC11-2 (io), 116 I/O/MC11-3 (io), 117 I/O/MC11-5 (io), 118 I/O/MC11-6 (io), 119 I/O/MC11-4 (io), 120 I/O/MC11-16 (io), 121 I/O/MC11-8 (io), 122 I/O/MC11-9 (io), 123 I/O/MC11-11 (io), 125 I/O/MC11-12 (io), 126 I/O/MC11-14 (io), 127 I/O/MC11-15 (io), 128 I/O/MC11-17 (io)
part L pins: 106 I/O/MC12-4 (io), 131 I/O/MC12-2 (io), 133 I/O/MC12-3 (io), 134 I/O/MC12-5 (io), 135 I/O/MC12-6 (io), 136 I/O/MC12-8 (io), 137 I/O/MC12-9 (io), 138 I/O/MC12-11 (io), 139 I/O/MC12-12 (io), 140 I/O/MC12-14 (io), 142 I/O/MC12-16 (io), 145 I/O/MC12-15 (io), 146 I/O/MC12-17 (io), 151 I/O/MC12-10 (io)
part M pins: 94 TDI (in), 96 TMS (in), 98 TCK (in), 176 TDO (out)
part N pins: 1 VCC IO (power), 11 VCC INT (power), 26 VCC IO (power), 53 VCC IO (power), 59 VCC INT (power), 65 VCC IO (power), 79 VCC IO (power), 92 VCC IO (power), 105 VCC IO (power), 124 VCC INT (power), 132 VCC IO (power), 153 VCC INT (power), 157 VCC IO (power), 172 VCC IO (power), 181 VCC IO (power), 184 VCC IO (power), 204 VCC INT (power)
part O pins: 2 GND (power), 13 GND (power), 24 GND (power), 27 GND (power), 42 GND (power), 52 GND (power), 66 GND (power), 68 GND (power), 69 GND (power), 81 GND (power), 93 GND (power), 104 GND (power), 108 GND (power), 129 GND (power), 130 GND (power), 141 GND (power), 156 GND (power), 163 GND (power), 177 GND (power), 190 GND (power), 207 GND (power)
part A text: BANK 1
part B text: BANK 2
part C text: BANK 3
part D text: BANK 4
part E text: BANK 5
part F text: BANK 6
part G text: BANK 7
part H text: BANK 8
part I text: BANK 9
part J text: BANK 10
part K text: BANK 11
part L text: BANK 12

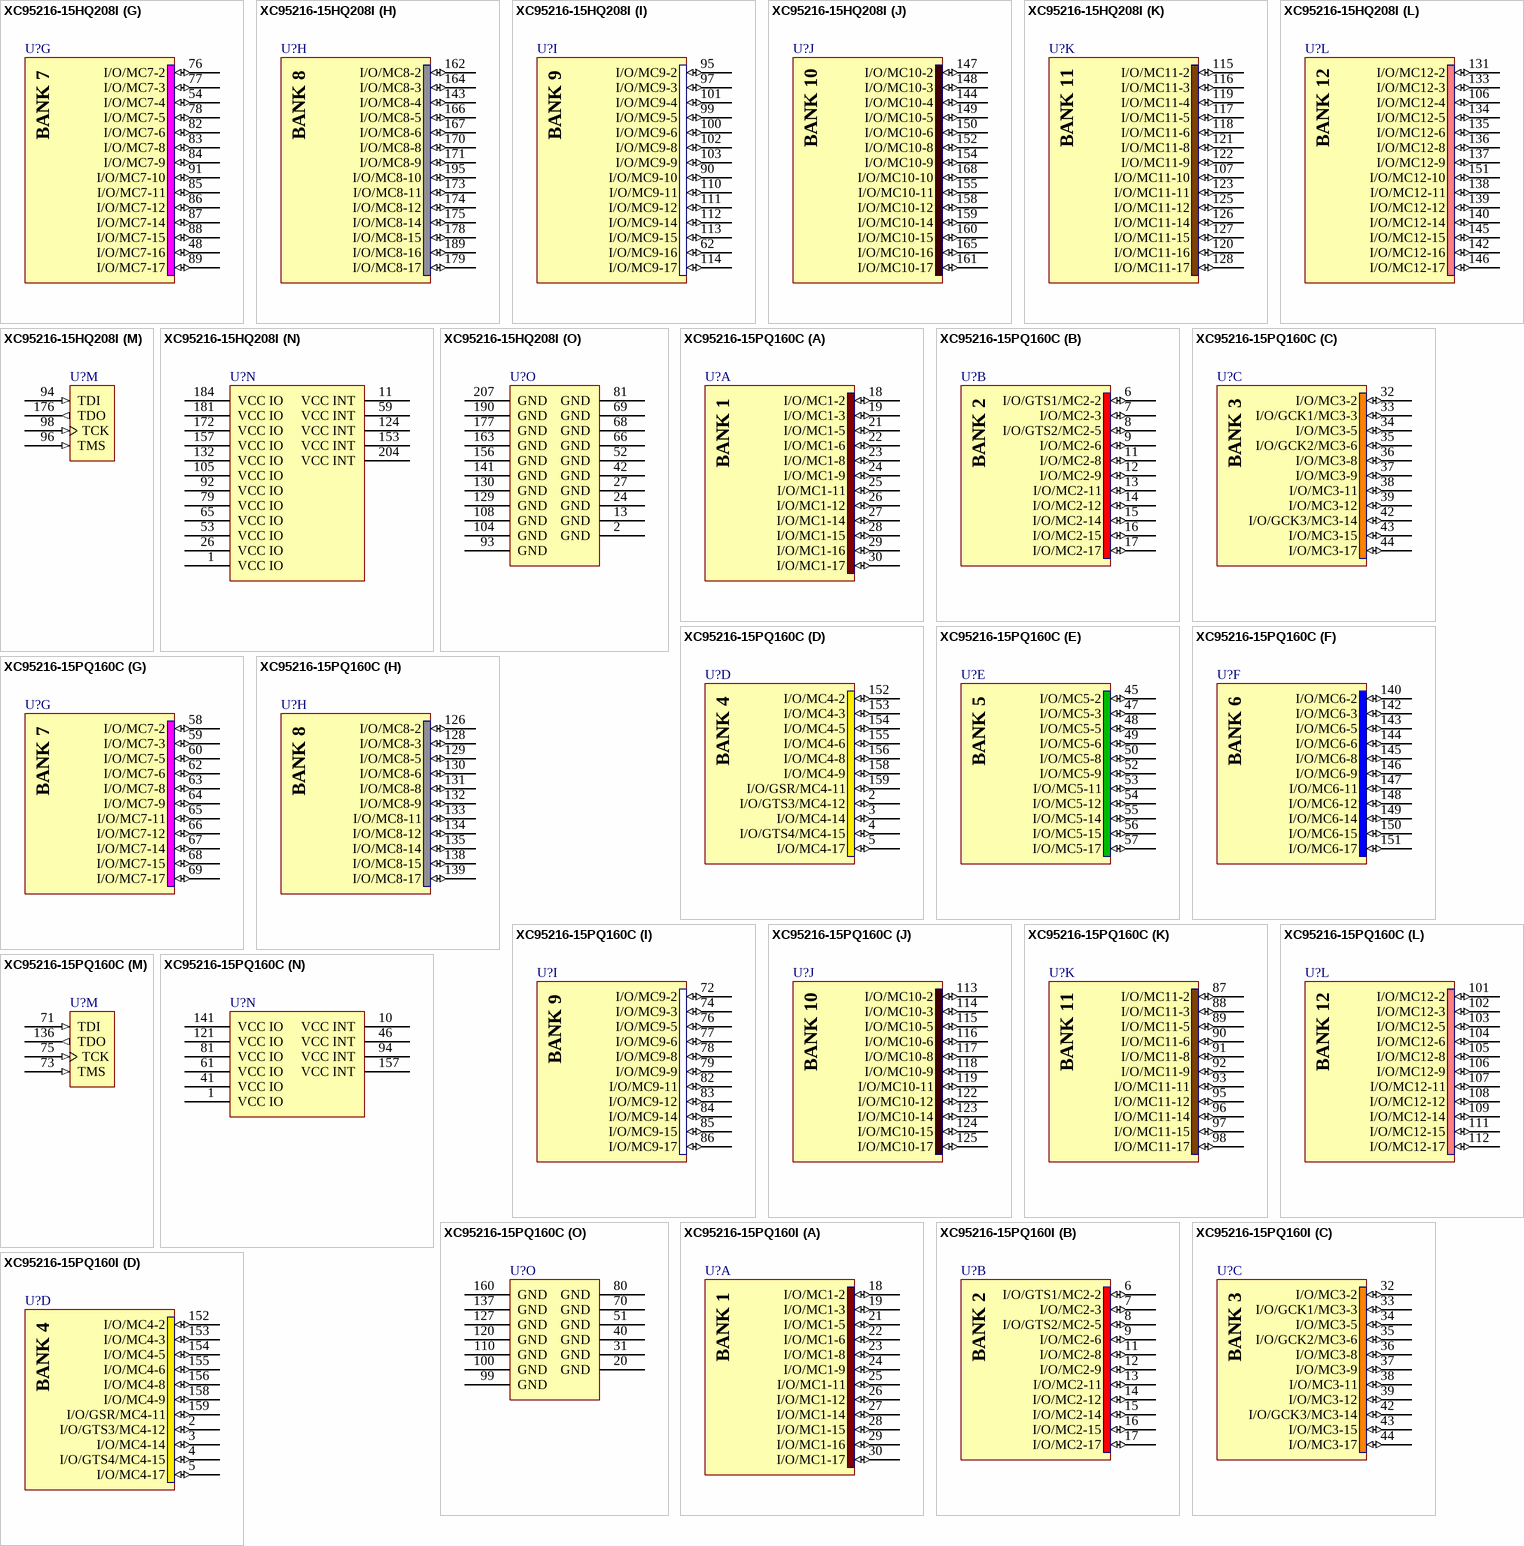
[diagram p60: symbols XC95216-15HQ208I to XC95216-15PQ160I]

## XC95216-15HQ208I
designator U?
XC9500 5V, 216 Macrocell CPLD, 166 User I/Os, 208-Pin HQFP, Industrial Grade; Published: 17-Sep-2003; LatestRevisionDate: 18-Nov-2009; LatestRevisionNote: Updated to family datasheet version 5.5 Jun-2007.; DatasheetVersion: ver4.4, Jun-2007; PackageVersion: ver1.2, Jun-2004; PackageReference: HQ208; Publisher: Altium Limited; PackageDescription: 208-Pin Heat Sink Quad Flat Pack (HQ208); Supplier 1: Digi-Key; Supplier Part Number 1: XC95216-15HQ208I-ND; Code_JEDEC: MS-029-FA-1; ComponentLink1Description: XC95216 Datasheet; ComponentLink1URL: http://www.xilinx.com/support/documentation/data_sheets/ds068.pdf; ComponentLink2Description: Discontinuation Notice; ComponentLink2URL: http://www.xilinx.com/support/documentation/customer_notices/xcn09001.pdf; ComponentLink3Description: HQ208 Package Drawing; ComponentLink3URL: http://www.xilinx.com/support/documentation/package_specs/hq208.pdf; ComponentLink4Description: XC9500 Documents; ComponentLink4URL: http://www.xilinx.com/support/documentation/xc9500.htm; ComponentLink5Description: Xilinx.com Home; ComponentLink5URL: http://www.xilinx.com
footprint HQ208_N (Shrink QFP, 208-Leads, Body 28x28mm, Pitch 0.5mm, IPC Medium Density)
footprint HQ208_L (Shrink QFP, 208-Leads, Body 28x28mm, Pitch 0.5mm, IPC High Density)
footprint HQ208_M (Shrink QFP, 208-Leads, Body 28x28mm, Pitch 0.5mm, IPC Low Density)
signal-integrity model XC95216_HQ208 (XC9500)
part A pins: 12 I/O/MC1-10 (io), 22 I/O/MC1-2 (io), 23 I/O/MC1-3 (io), 25 I/O/MC1-5 (io), 28 I/O/MC1-4 (io), 30 I/O/MC1-6 (io), 31 I/O/MC1-8 (io), 32 I/O/MC1-9 (io), 33 I/O/MC1-11 (io), 34 I/O/MC1-12 (io), 35 I/O/MC1-14 (io), 36 I/O/MC1-15 (io), 37 I/O/MC1-16 (io), 38 I/O/MC1-17 (io)
part B pins: 7 I/O/GTS1/MC2-2 (io), 8 I/O/MC2-3 (io), 9 I/O/GTS2/MC2-5 (io), 10 I/O/MC2-6 (io), 14 I/O/MC2-16 (io), 15 I/O/MC2-8 (io), 16 I/O/MC2-9 (io), 17 I/O/MC2-11 (io), 18 I/O/MC2-12 (io), 19 I/O/MC2-14 (io), 20 I/O/MC2-15 (io), 21 I/O/MC2-17 (io), 29 I/O/MC2-4 (io)
part C pins: 39 I/O/MC3-4 (io), 43 I/O/MC3-2 (io), 44 I/O/GCK1/MC3-3 (io), 45 I/O/MC3-5 (io), 46 I/O/GCK2/MC3-6 (io), 47 I/O/MC3-8 (io), 49 I/O/MC3-9 (io), 50 I/O/MC3-11 (io), 51 I/O/MC3-12 (io), 55 I/O/GCK3/MC3-14 (io), 56 I/O/MC3-15 (io), 57 I/O/MC3-17 (io), 67 I/O/MC3-10 (io), 80 I/O/MC3-16 (io)
part D pins: 3 I/O/GTS3/MC4-12 (io), 4 I/O/MC4-14 (io), 5 I/O/GTS4/MC4-15 (io), 6 I/O/MC4-17 (io), 196 I/O/MC4-4 (io), 198 I/O/MC4-2 (io), 199 I/O/MC4-3 (io), 200 I/O/MC4-5 (io), 201 I/O/MC4-6 (io), 202 I/O/MC4-8 (io), 203 I/O/MC4-16 (io), 205 I/O/MC4-9 (io), 206 I/O/GSR/MC4-11 (io)
part E pins: 40 I/O/MC5-16 (io), 41 I/O/MC5-4 (io), 58 I/O/MC5-2 (io), 60 I/O/MC5-3 (io), 61 I/O/MC5-5 (io), 63 I/O/MC5-6 (io), 64 I/O/MC5-8 (io), 70 I/O/MC5-9 (io), 71 I/O/MC5-11 (io), 72 I/O/MC5-12 (io), 73 I/O/MC5-14 (io), 74 I/O/MC5-15 (io), 75 I/O/MC5-17 (io), 109 I/O/MC5-10 (io)
part F pins: 169 I/O/MC6-16 (io), 180 I/O/MC6-2 (io), 182 I/O/MC6-3 (io), 183 I/O/MC6-10 (io), 185 I/O/MC6-5 (io), 186 I/O/MC6-6 (io), 187 I/O/MC6-8 (io), 188 I/O/MC6-9 (io), 191 I/O/MC6-11 (io), 192 I/O/MC6-12 (io), 193 I/O/MC6-14 (io), 194 I/O/MC6-15 (io), 197 I/O/MC6-17 (io), 208 I/O/MC6-4 (io)
part G pins: 48 I/O/MC7-16 (io), 54 I/O/MC7-4 (io), 76 I/O/MC7-2 (io), 77 I/O/MC7-3 (io), 78 I/O/MC7-5 (io), 82 I/O/MC7-6 (io), 83 I/O/MC7-8 (io), 84 I/O/MC7-9 (io), 85 I/O/MC7-11 (io), 86 I/O/MC7-12 (io), 87 I/O/MC7-14 (io), 88 I/O/MC7-15 (io), 89 I/O/MC7-17 (io), 91 I/O/MC7-10 (io)
part H pins: 143 I/O/MC8-4 (io), 162 I/O/MC8-2 (io), 164 I/O/MC8-3 (io), 166 I/O/MC8-5 (io), 167 I/O/MC8-6 (io), 170 I/O/MC8-8 (io), 171 I/O/MC8-9 (io), 173 I/O/MC8-11 (io), 174 I/O/MC8-12 (io), 175 I/O/MC8-14 (io), 178 I/O/MC8-15 (io), 179 I/O/MC8-17 (io), 189 I/O/MC8-16 (io), 195 I/O/MC8-10 (io)
part I pins: 62 I/O/MC9-16 (io), 90 I/O/MC9-10 (io), 95 I/O/MC9-2 (io), 97 I/O/MC9-3 (io), 99 I/O/MC9-5 (io), 100 I/O/MC9-6 (io), 101 I/O/MC9-4 (io), 102 I/O/MC9-8 (io), 103 I/O/MC9-9 (io), 110 I/O/MC9-11 (io), 111 I/O/MC9-12 (io), 112 I/O/MC9-14 (io), 113 I/O/MC9-15 (io), 114 I/O/MC9-17 (io)
part J pins: 144 I/O/MC10-4 (io), 147 I/O/MC10-2 (io), 148 I/O/MC10-3 (io), 149 I/O/MC10-5 (io), 150 I/O/MC10-6 (io), 152 I/O/MC10-8 (io), 154 I/O/MC10-9 (io), 155 I/O/MC10-11 (io), 158 I/O/MC10-12 (io), 159 I/O/MC10-14 (io), 160 I/O/MC10-15 (io), 161 I/O/MC10-17 (io), 165 I/O/MC10-16 (io), 168 I/O/MC10-10 (io)
part K pins: 107 I/O/MC11-10 (io), 115 I/O/MC11-2 (io), 116 I/O/MC11-3 (io), 117 I/O/MC11-5 (io), 118 I/O/MC11-6 (io), 119 I/O/MC11-4 (io), 120 I/O/MC11-16 (io), 121 I/O/MC11-8 (io), 122 I/O/MC11-9 (io), 123 I/O/MC11-11 (io), 125 I/O/MC11-12 (io), 126 I/O/MC11-14 (io), 127 I/O/MC11-15 (io), 128 I/O/MC11-17 (io)
part L pins: 106 I/O/MC12-4 (io), 131 I/O/MC12-2 (io), 133 I/O/MC12-3 (io), 134 I/O/MC12-5 (io), 135 I/O/MC12-6 (io), 136 I/O/MC12-8 (io), 137 I/O/MC12-9 (io), 138 I/O/MC12-11 (io), 139 I/O/MC12-12 (io), 140 I/O/MC12-14 (io), 142 I/O/MC12-16 (io), 145 I/O/MC12-15 (io), 146 I/O/MC12-17 (io), 151 I/O/MC12-10 (io)
part M pins: 94 TDI (in), 96 TMS (in), 98 TCK (in), 176 TDO (out)
part N pins: 1 VCC IO (power), 11 VCC INT (power), 26 VCC IO (power), 53 VCC IO (power), 59 VCC INT (power), 65 VCC IO (power), 79 VCC IO (power), 92 VCC IO (power), 105 VCC IO (power), 124 VCC INT (power), 132 VCC IO (power), 153 VCC INT (power), 157 VCC IO (power), 172 VCC IO (power), 181 VCC IO (power), 184 VCC IO (power), 204 VCC INT (power)
part O pins: 2 GND (power), 13 GND (power), 24 GND (power), 27 GND (power), 42 GND (power), 52 GND (power), 66 GND (power), 68 GND (power), 69 GND (power), 81 GND (power), 93 GND (power), 104 GND (power), 108 GND (power), 129 GND (power), 130 GND (power), 141 GND (power), 156 GND (power), 163 GND (power), 177 GND (power), 190 GND (power), 207 GND (power)
part A text: BANK 1
part B text: BANK 2
part C text: BANK 3
part D text: BANK 4
part E text: BANK 5
part F text: BANK 6
part G text: BANK 7
part H text: BANK 8
part I text: BANK 9
part J text: BANK 10
part K text: BANK 11
part L text: BANK 12

## XC95216-15PQ160C
designator U?
XC9500 5V, 216 Macrocell CPLD, 133 User I/Os, 160-Pin PQFP, Commercial Grade; Published: 8-Jun-2000; LatestRevisionDate: 18-Nov-2009; LatestRevisionNote: Updated to family datasheet version 5.5 Jun-2007.; DatasheetVersion: ver4.4, Jun-2007; PackageVersion: ver1.2, Jun-2004; PackageReference: PQ160; Publisher: Altium Limited; PackageDescription: 160-Pin Plastic Quad Flat Pack (PQ160); Supplier 1: Digi-Key; Supplier Part Number 1: 122-1392-ND; Code_JEDEC: MS-022-DD1; Code_IPC: QFP65P3120X3120-160; ComponentLink1Description: XC95216 Datasheet; ComponentLink1URL: http://www.xilinx.com/support/documentation/data_sheets/ds068.pdf; ComponentLink2Description: PQ160 Package Drawing; ComponentLink2URL: http://www.xilinx.com/support/documentation/package_specs/pq160.pdf; ComponentLink3Description: XC9500 Documents; ComponentLink3URL: http://www.xilinx.com/support/documentation/xc9500.htm; ComponentLink4Description: Xilinx.com Home; ComponentLink4URL: http://www.xilinx.com
footprint PQ160_N (QFP, 160-Leads, Body 28x28mm, Pitch 0.65mm, IPC Medium Density)
footprint PQ160_L (QFP, 160-Leads, Body 28x28mm, Pitch 0.65mm, IPC High Density)
footprint PQ160_M (QFP, 160-Leads, Body 28x28mm, Pitch 0.65mm, IPC Low Density)
signal-integrity model XC95216_PQ160 (XC9500)
part A pins: 18 I/O/MC1-2 (io), 19 I/O/MC1-3 (io), 21 I/O/MC1-5 (io), 22 I/O/MC1-6 (io), 23 I/O/MC1-8 (io), 24 I/O/MC1-9 (io), 25 I/O/MC1-11 (io), 26 I/O/MC1-12 (io), 27 I/O/MC1-14 (io), 28 I/O/MC1-15 (io), 29 I/O/MC1-16 (io), 30 I/O/MC1-17 (io)
part B pins: 6 I/O/GTS1/MC2-2 (io), 7 I/O/MC2-3 (io), 8 I/O/GTS2/MC2-5 (io), 9 I/O/MC2-6 (io), 11 I/O/MC2-8 (io), 12 I/O/MC2-9 (io), 13 I/O/MC2-11 (io), 14 I/O/MC2-12 (io), 15 I/O/MC2-14 (io), 16 I/O/MC2-15 (io), 17 I/O/MC2-17 (io)
part C pins: 32 I/O/MC3-2 (io), 33 I/O/GCK1/MC3-3 (io), 34 I/O/MC3-5 (io), 35 I/O/GCK2/MC3-6 (io), 36 I/O/MC3-8 (io), 37 I/O/MC3-9 (io), 38 I/O/MC3-11 (io), 39 I/O/MC3-12 (io), 42 I/O/GCK3/MC3-14 (io), 43 I/O/MC3-15 (io), 44 I/O/MC3-17 (io)
part D pins: 2 I/O/GTS3/MC4-12 (io), 3 I/O/MC4-14 (io), 4 I/O/GTS4/MC4-15 (io), 5 I/O/MC4-17 (io), 152 I/O/MC4-2 (io), 153 I/O/MC4-3 (io), 154 I/O/MC4-5 (io), 155 I/O/MC4-6 (io), 156 I/O/MC4-8 (io), 158 I/O/MC4-9 (io), 159 I/O/GSR/MC4-11 (io)
part E pins: 45 I/O/MC5-2 (io), 47 I/O/MC5-3 (io), 48 I/O/MC5-5 (io), 49 I/O/MC5-6 (io), 50 I/O/MC5-8 (io), 52 I/O/MC5-9 (io), 53 I/O/MC5-11 (io), 54 I/O/MC5-12 (io), 55 I/O/MC5-14 (io), 56 I/O/MC5-15 (io), 57 I/O/MC5-17 (io)
part F pins: 140 I/O/MC6-2 (io), 142 I/O/MC6-3 (io), 143 I/O/MC6-5 (io), 144 I/O/MC6-6 (io), 145 I/O/MC6-8 (io), 146 I/O/MC6-9 (io), 147 I/O/MC6-11 (io), 148 I/O/MC6-12 (io), 149 I/O/MC6-14 (io), 150 I/O/MC6-15 (io), 151 I/O/MC6-17 (io)
part G pins: 58 I/O/MC7-2 (io), 59 I/O/MC7-3 (io), 60 I/O/MC7-5 (io), 62 I/O/MC7-6 (io), 63 I/O/MC7-8 (io), 64 I/O/MC7-9 (io), 65 I/O/MC7-11 (io), 66 I/O/MC7-12 (io), 67 I/O/MC7-14 (io), 68 I/O/MC7-15 (io), 69 I/O/MC7-17 (io)
part H pins: 126 I/O/MC8-2 (io), 128 I/O/MC8-3 (io), 129 I/O/MC8-5 (io), 130 I/O/MC8-6 (io), 131 I/O/MC8-8 (io), 132 I/O/MC8-9 (io), 133 I/O/MC8-11 (io), 134 I/O/MC8-12 (io), 135 I/O/MC8-14 (io), 138 I/O/MC8-15 (io), 139 I/O/MC8-17 (io)
part I pins: 72 I/O/MC9-2 (io), 74 I/O/MC9-3 (io), 76 I/O/MC9-5 (io), 77 I/O/MC9-6 (io), 78 I/O/MC9-8 (io), 79 I/O/MC9-9 (io), 82 I/O/MC9-11 (io), 83 I/O/MC9-12 (io), 84 I/O/MC9-14 (io), 85 I/O/MC9-15 (io), 86 I/O/MC9-17 (io)
part J pins: 113 I/O/MC10-2 (io), 114 I/O/MC10-3 (io), 115 I/O/MC10-5 (io), 116 I/O/MC10-6 (io), 117 I/O/MC10-8 (io), 118 I/O/MC10-9 (io), 119 I/O/MC10-11 (io), 122 I/O/MC10-12 (io), 123 I/O/MC10-14 (io), 124 I/O/MC10-15 (io), 125 I/O/MC10-17 (io)
part K pins: 87 I/O/MC11-2 (io), 88 I/O/MC11-3 (io), 89 I/O/MC11-5 (io), 90 I/O/MC11-6 (io), 91 I/O/MC11-8 (io), 92 I/O/MC11-9 (io), 93 I/O/MC11-11 (io), 95 I/O/MC11-12 (io), 96 I/O/MC11-14 (io), 97 I/O/MC11-15 (io), 98 I/O/MC11-17 (io)
part L pins: 101 I/O/MC12-2 (io), 102 I/O/MC12-3 (io), 103 I/O/MC12-5 (io), 104 I/O/MC12-6 (io), 105 I/O/MC12-8 (io), 106 I/O/MC12-9 (io), 107 I/O/MC12-11 (io), 108 I/O/MC12-12 (io), 109 I/O/MC12-14 (io), 111 I/O/MC12-15 (io), 112 I/O/MC12-17 (io)
part M pins: 71 TDI (in), 73 TMS (in), 75 TCK (in), 136 TDO (out)
part N pins: 1 VCC IO (power), 10 VCC INT (power), 41 VCC IO (power), 46 VCC INT (power), 61 VCC IO (power), 81 VCC IO (power), 94 VCC INT (power), 121 VCC IO (power), 141 VCC IO (power), 157 VCC INT (power)
part O pins: 20 GND (power), 31 GND (power), 40 GND (power), 51 GND (power), 70 GND (power), 80 GND (power), 99 GND (power), 100 GND (power), 110 GND (power), 120 GND (power), 127 GND (power), 137 GND (power), 160 GND (power)
part A text: BANK 1
part B text: BANK 2
part C text: BANK 3
part D text: BANK 4
part E text: BANK 5
part F text: BANK 6
part G text: BANK 7
part H text: BANK 8
part I text: BANK 9
part J text: BANK 10
part K text: BANK 11
part L text: BANK 12

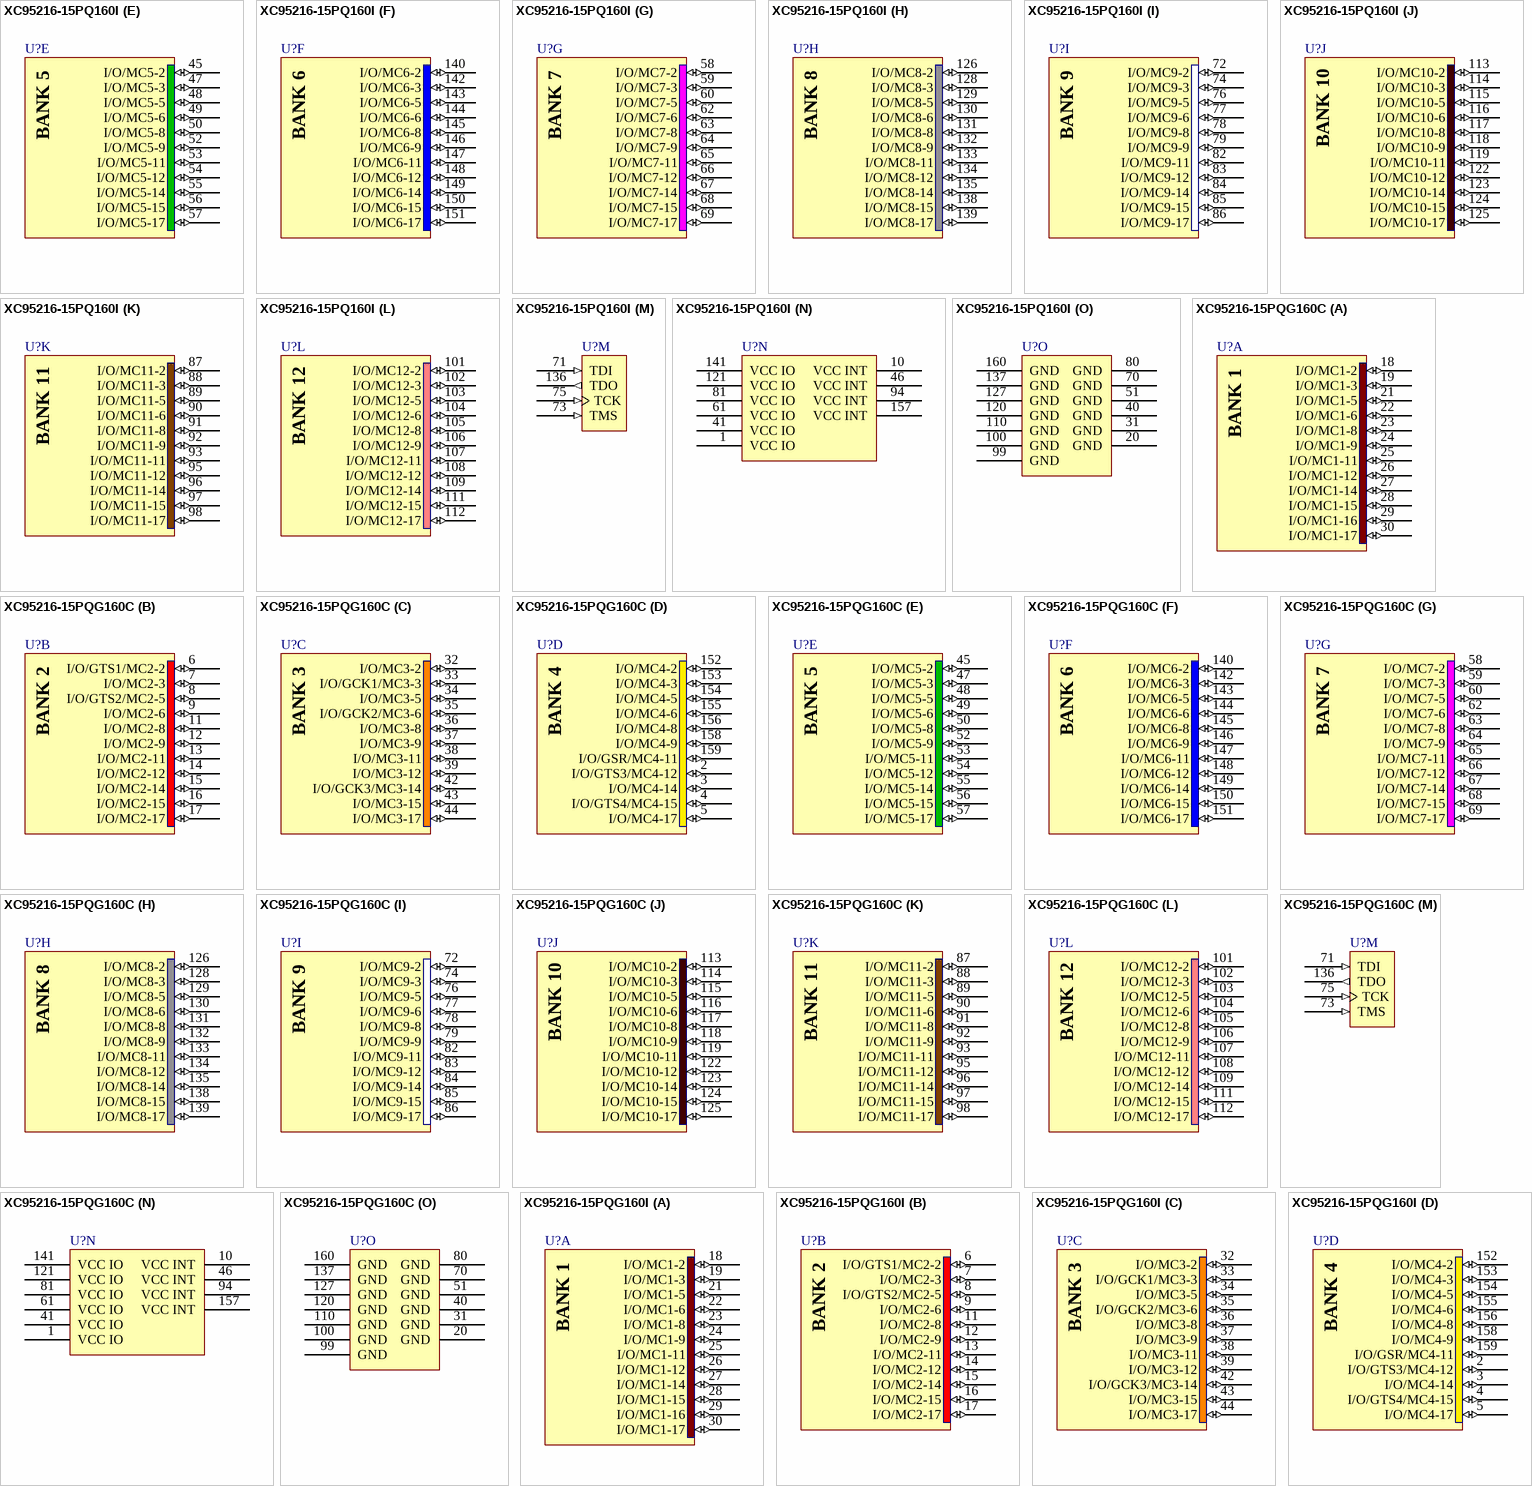
[diagram p61: symbols XC95216-15PQ160I to XC95216-15PQG160I]

## XC95216-15PQ160I
designator U?
XC9500 5V, 216 Macrocell CPLD, 133 User I/Os, 160-Pin PQFP, Industrial Grade; Published: 17-Sep-2003; LatestRevisionDate: 18-Nov-2009; LatestRevisionNote: Updated to family datasheet version 5.5 Jun-2007.; DatasheetVersion: ver4.4, Jun-2007; PackageVersion: ver1.2, Jun-2004; PackageReference: PQ160; Publisher: Altium Limited; PackageDescription: 160-Pin Plastic Quad Flat Pack (PQ160); Supplier 1: Digi-Key; Supplier Part Number 1: XC95216-15PQ160I-ND; Code_JEDEC: MS-022-DD1; Code_IPC: QFP65P3120X3120-160; ComponentLink1Description: XC95216 Datasheet; ComponentLink1URL: http://www.xilinx.com/support/documentation/data_sheets/ds068.pdf; ComponentLink2Description: PQ160 Package Drawing; ComponentLink2URL: http://www.xilinx.com/support/documentation/package_specs/pq160.pdf; ComponentLink3Description: XC9500 Documents; ComponentLink3URL: http://www.xilinx.com/support/documentation/xc9500.htm; ComponentLink4Description: Xilinx.com Home; ComponentLink4URL: http://www.xilinx.com
footprint PQ160_N (QFP, 160-Leads, Body 28x28mm, Pitch 0.65mm, IPC Medium Density)
footprint PQ160_L (QFP, 160-Leads, Body 28x28mm, Pitch 0.65mm, IPC High Density)
footprint PQ160_M (QFP, 160-Leads, Body 28x28mm, Pitch 0.65mm, IPC Low Density)
signal-integrity model XC95216_PQ160 (XC9500)
part A pins: 18 I/O/MC1-2 (io), 19 I/O/MC1-3 (io), 21 I/O/MC1-5 (io), 22 I/O/MC1-6 (io), 23 I/O/MC1-8 (io), 24 I/O/MC1-9 (io), 25 I/O/MC1-11 (io), 26 I/O/MC1-12 (io), 27 I/O/MC1-14 (io), 28 I/O/MC1-15 (io), 29 I/O/MC1-16 (io), 30 I/O/MC1-17 (io)
part B pins: 6 I/O/GTS1/MC2-2 (io), 7 I/O/MC2-3 (io), 8 I/O/GTS2/MC2-5 (io), 9 I/O/MC2-6 (io), 11 I/O/MC2-8 (io), 12 I/O/MC2-9 (io), 13 I/O/MC2-11 (io), 14 I/O/MC2-12 (io), 15 I/O/MC2-14 (io), 16 I/O/MC2-15 (io), 17 I/O/MC2-17 (io)
part C pins: 32 I/O/MC3-2 (io), 33 I/O/GCK1/MC3-3 (io), 34 I/O/MC3-5 (io), 35 I/O/GCK2/MC3-6 (io), 36 I/O/MC3-8 (io), 37 I/O/MC3-9 (io), 38 I/O/MC3-11 (io), 39 I/O/MC3-12 (io), 42 I/O/GCK3/MC3-14 (io), 43 I/O/MC3-15 (io), 44 I/O/MC3-17 (io)
part D pins: 2 I/O/GTS3/MC4-12 (io), 3 I/O/MC4-14 (io), 4 I/O/GTS4/MC4-15 (io), 5 I/O/MC4-17 (io), 152 I/O/MC4-2 (io), 153 I/O/MC4-3 (io), 154 I/O/MC4-5 (io), 155 I/O/MC4-6 (io), 156 I/O/MC4-8 (io), 158 I/O/MC4-9 (io), 159 I/O/GSR/MC4-11 (io)
part E pins: 45 I/O/MC5-2 (io), 47 I/O/MC5-3 (io), 48 I/O/MC5-5 (io), 49 I/O/MC5-6 (io), 50 I/O/MC5-8 (io), 52 I/O/MC5-9 (io), 53 I/O/MC5-11 (io), 54 I/O/MC5-12 (io), 55 I/O/MC5-14 (io), 56 I/O/MC5-15 (io), 57 I/O/MC5-17 (io)
part F pins: 140 I/O/MC6-2 (io), 142 I/O/MC6-3 (io), 143 I/O/MC6-5 (io), 144 I/O/MC6-6 (io), 145 I/O/MC6-8 (io), 146 I/O/MC6-9 (io), 147 I/O/MC6-11 (io), 148 I/O/MC6-12 (io), 149 I/O/MC6-14 (io), 150 I/O/MC6-15 (io), 151 I/O/MC6-17 (io)
part G pins: 58 I/O/MC7-2 (io), 59 I/O/MC7-3 (io), 60 I/O/MC7-5 (io), 62 I/O/MC7-6 (io), 63 I/O/MC7-8 (io), 64 I/O/MC7-9 (io), 65 I/O/MC7-11 (io), 66 I/O/MC7-12 (io), 67 I/O/MC7-14 (io), 68 I/O/MC7-15 (io), 69 I/O/MC7-17 (io)
part H pins: 126 I/O/MC8-2 (io), 128 I/O/MC8-3 (io), 129 I/O/MC8-5 (io), 130 I/O/MC8-6 (io), 131 I/O/MC8-8 (io), 132 I/O/MC8-9 (io), 133 I/O/MC8-11 (io), 134 I/O/MC8-12 (io), 135 I/O/MC8-14 (io), 138 I/O/MC8-15 (io), 139 I/O/MC8-17 (io)
part I pins: 72 I/O/MC9-2 (io), 74 I/O/MC9-3 (io), 76 I/O/MC9-5 (io), 77 I/O/MC9-6 (io), 78 I/O/MC9-8 (io), 79 I/O/MC9-9 (io), 82 I/O/MC9-11 (io), 83 I/O/MC9-12 (io), 84 I/O/MC9-14 (io), 85 I/O/MC9-15 (io), 86 I/O/MC9-17 (io)
part J pins: 113 I/O/MC10-2 (io), 114 I/O/MC10-3 (io), 115 I/O/MC10-5 (io), 116 I/O/MC10-6 (io), 117 I/O/MC10-8 (io), 118 I/O/MC10-9 (io), 119 I/O/MC10-11 (io), 122 I/O/MC10-12 (io), 123 I/O/MC10-14 (io), 124 I/O/MC10-15 (io), 125 I/O/MC10-17 (io)
part K pins: 87 I/O/MC11-2 (io), 88 I/O/MC11-3 (io), 89 I/O/MC11-5 (io), 90 I/O/MC11-6 (io), 91 I/O/MC11-8 (io), 92 I/O/MC11-9 (io), 93 I/O/MC11-11 (io), 95 I/O/MC11-12 (io), 96 I/O/MC11-14 (io), 97 I/O/MC11-15 (io), 98 I/O/MC11-17 (io)
part L pins: 101 I/O/MC12-2 (io), 102 I/O/MC12-3 (io), 103 I/O/MC12-5 (io), 104 I/O/MC12-6 (io), 105 I/O/MC12-8 (io), 106 I/O/MC12-9 (io), 107 I/O/MC12-11 (io), 108 I/O/MC12-12 (io), 109 I/O/MC12-14 (io), 111 I/O/MC12-15 (io), 112 I/O/MC12-17 (io)
part M pins: 71 TDI (in), 73 TMS (in), 75 TCK (in), 136 TDO (out)
part N pins: 1 VCC IO (power), 10 VCC INT (power), 41 VCC IO (power), 46 VCC INT (power), 61 VCC IO (power), 81 VCC IO (power), 94 VCC INT (power), 121 VCC IO (power), 141 VCC IO (power), 157 VCC INT (power)
part O pins: 20 GND (power), 31 GND (power), 40 GND (power), 51 GND (power), 70 GND (power), 80 GND (power), 99 GND (power), 100 GND (power), 110 GND (power), 120 GND (power), 127 GND (power), 137 GND (power), 160 GND (power)
part A text: BANK 1
part B text: BANK 2
part C text: BANK 3
part D text: BANK 4
part E text: BANK 5
part F text: BANK 6
part G text: BANK 7
part H text: BANK 8
part I text: BANK 9
part J text: BANK 10
part K text: BANK 11
part L text: BANK 12

## XC95216-15PQG160C
designator U?
XC9500 5V, 216 Macrocell CPLD, 133 User I/Os, 160-Pin PQFP, Commercial Grade, Pb-Free; Published: 8-Sep-2006; LatestRevisionDate: 18-Nov-2009; LatestRevisionNote: Updated to family datasheet version 5.5 Jun-2007.; DatasheetVersion: ver4.4, Jun-2007; PackageVersion: ver1.2, Jun-2004; PackageReference: PQG160; Publisher: Altium Limited; PackageDescription: 160-Pin Plastic Quad Flat Pack (PQG160) - Pb-Free; Supplier 1: Digi-Key; Supplier Part Number 1: 122-1429-ND; Supplier 2: Newark; Supplier Part Number 2: 08R6420; Code_JEDEC: MS-022-DD1; Code_IPC: QFP65P3120X3120-160; ComponentLink1Description: XC95216 Datasheet; ComponentLink1URL: http://www.xilinx.com/support/documentation/data_sheets/ds068.pdf; ComponentLink2Description: PQG160 Package Drawing; ComponentLink2URL: http://www.xilinx.com/support/documentation/package_specs/pq160.pdf; ComponentLink3Description: XC9500 Documents; ComponentLink3URL: http://www.xilinx.com/support/documentation/xc9500.htm; ComponentLink4Description: Xilinx.com Home; ComponentLink4URL: http://www.xilinx.com
footprint PQG160_N (QFP, 160-Leads, Body 28x28mm, Pitch 0.65mm, IPC Medium Density)
footprint PQG160_L (QFP, 160-Leads, Body 28x28mm, Pitch 0.65mm, IPC High Density)
footprint PQG160_M (QFP, 160-Leads, Body 28x28mm, Pitch 0.65mm, IPC Low Density)
signal-integrity model XC95216_PQG160 (XC9500)
part A pins: 18 I/O/MC1-2 (io), 19 I/O/MC1-3 (io), 21 I/O/MC1-5 (io), 22 I/O/MC1-6 (io), 23 I/O/MC1-8 (io), 24 I/O/MC1-9 (io), 25 I/O/MC1-11 (io), 26 I/O/MC1-12 (io), 27 I/O/MC1-14 (io), 28 I/O/MC1-15 (io), 29 I/O/MC1-16 (io), 30 I/O/MC1-17 (io)
part B pins: 6 I/O/GTS1/MC2-2 (io), 7 I/O/MC2-3 (io), 8 I/O/GTS2/MC2-5 (io), 9 I/O/MC2-6 (io), 11 I/O/MC2-8 (io), 12 I/O/MC2-9 (io), 13 I/O/MC2-11 (io), 14 I/O/MC2-12 (io), 15 I/O/MC2-14 (io), 16 I/O/MC2-15 (io), 17 I/O/MC2-17 (io)
part C pins: 32 I/O/MC3-2 (io), 33 I/O/GCK1/MC3-3 (io), 34 I/O/MC3-5 (io), 35 I/O/GCK2/MC3-6 (io), 36 I/O/MC3-8 (io), 37 I/O/MC3-9 (io), 38 I/O/MC3-11 (io), 39 I/O/MC3-12 (io), 42 I/O/GCK3/MC3-14 (io), 43 I/O/MC3-15 (io), 44 I/O/MC3-17 (io)
part D pins: 2 I/O/GTS3/MC4-12 (io), 3 I/O/MC4-14 (io), 4 I/O/GTS4/MC4-15 (io), 5 I/O/MC4-17 (io), 152 I/O/MC4-2 (io), 153 I/O/MC4-3 (io), 154 I/O/MC4-5 (io), 155 I/O/MC4-6 (io), 156 I/O/MC4-8 (io), 158 I/O/MC4-9 (io), 159 I/O/GSR/MC4-11 (io)
part E pins: 45 I/O/MC5-2 (io), 47 I/O/MC5-3 (io), 48 I/O/MC5-5 (io), 49 I/O/MC5-6 (io), 50 I/O/MC5-8 (io), 52 I/O/MC5-9 (io), 53 I/O/MC5-11 (io), 54 I/O/MC5-12 (io), 55 I/O/MC5-14 (io), 56 I/O/MC5-15 (io), 57 I/O/MC5-17 (io)
part F pins: 140 I/O/MC6-2 (io), 142 I/O/MC6-3 (io), 143 I/O/MC6-5 (io), 144 I/O/MC6-6 (io), 145 I/O/MC6-8 (io), 146 I/O/MC6-9 (io), 147 I/O/MC6-11 (io), 148 I/O/MC6-12 (io), 149 I/O/MC6-14 (io), 150 I/O/MC6-15 (io), 151 I/O/MC6-17 (io)
part G pins: 58 I/O/MC7-2 (io), 59 I/O/MC7-3 (io), 60 I/O/MC7-5 (io), 62 I/O/MC7-6 (io), 63 I/O/MC7-8 (io), 64 I/O/MC7-9 (io), 65 I/O/MC7-11 (io), 66 I/O/MC7-12 (io), 67 I/O/MC7-14 (io), 68 I/O/MC7-15 (io), 69 I/O/MC7-17 (io)
part H pins: 126 I/O/MC8-2 (io), 128 I/O/MC8-3 (io), 129 I/O/MC8-5 (io), 130 I/O/MC8-6 (io), 131 I/O/MC8-8 (io), 132 I/O/MC8-9 (io), 133 I/O/MC8-11 (io), 134 I/O/MC8-12 (io), 135 I/O/MC8-14 (io), 138 I/O/MC8-15 (io), 139 I/O/MC8-17 (io)
part I pins: 72 I/O/MC9-2 (io), 74 I/O/MC9-3 (io), 76 I/O/MC9-5 (io), 77 I/O/MC9-6 (io), 78 I/O/MC9-8 (io), 79 I/O/MC9-9 (io), 82 I/O/MC9-11 (io), 83 I/O/MC9-12 (io), 84 I/O/MC9-14 (io), 85 I/O/MC9-15 (io), 86 I/O/MC9-17 (io)
part J pins: 113 I/O/MC10-2 (io), 114 I/O/MC10-3 (io), 115 I/O/MC10-5 (io), 116 I/O/MC10-6 (io), 117 I/O/MC10-8 (io), 118 I/O/MC10-9 (io), 119 I/O/MC10-11 (io), 122 I/O/MC10-12 (io), 123 I/O/MC10-14 (io), 124 I/O/MC10-15 (io), 125 I/O/MC10-17 (io)
part K pins: 87 I/O/MC11-2 (io), 88 I/O/MC11-3 (io), 89 I/O/MC11-5 (io), 90 I/O/MC11-6 (io), 91 I/O/MC11-8 (io), 92 I/O/MC11-9 (io), 93 I/O/MC11-11 (io), 95 I/O/MC11-12 (io), 96 I/O/MC11-14 (io), 97 I/O/MC11-15 (io), 98 I/O/MC11-17 (io)
part L pins: 101 I/O/MC12-2 (io), 102 I/O/MC12-3 (io), 103 I/O/MC12-5 (io), 104 I/O/MC12-6 (io), 105 I/O/MC12-8 (io), 106 I/O/MC12-9 (io), 107 I/O/MC12-11 (io), 108 I/O/MC12-12 (io), 109 I/O/MC12-14 (io), 111 I/O/MC12-15 (io), 112 I/O/MC12-17 (io)
part M pins: 71 TDI (in), 73 TMS (in), 75 TCK (in), 136 TDO (out)
part N pins: 1 VCC IO (power), 10 VCC INT (power), 41 VCC IO (power), 46 VCC INT (power), 61 VCC IO (power), 81 VCC IO (power), 94 VCC INT (power), 121 VCC IO (power), 141 VCC IO (power), 157 VCC INT (power)
part O pins: 20 GND (power), 31 GND (power), 40 GND (power), 51 GND (power), 70 GND (power), 80 GND (power), 99 GND (power), 100 GND (power), 110 GND (power), 120 GND (power), 127 GND (power), 137 GND (power), 160 GND (power)
part A text: BANK 1
part B text: BANK 2
part C text: BANK 3
part D text: BANK 4
part E text: BANK 5
part F text: BANK 6
part G text: BANK 7
part H text: BANK 8
part I text: BANK 9
part J text: BANK 10
part K text: BANK 11
part L text: BANK 12

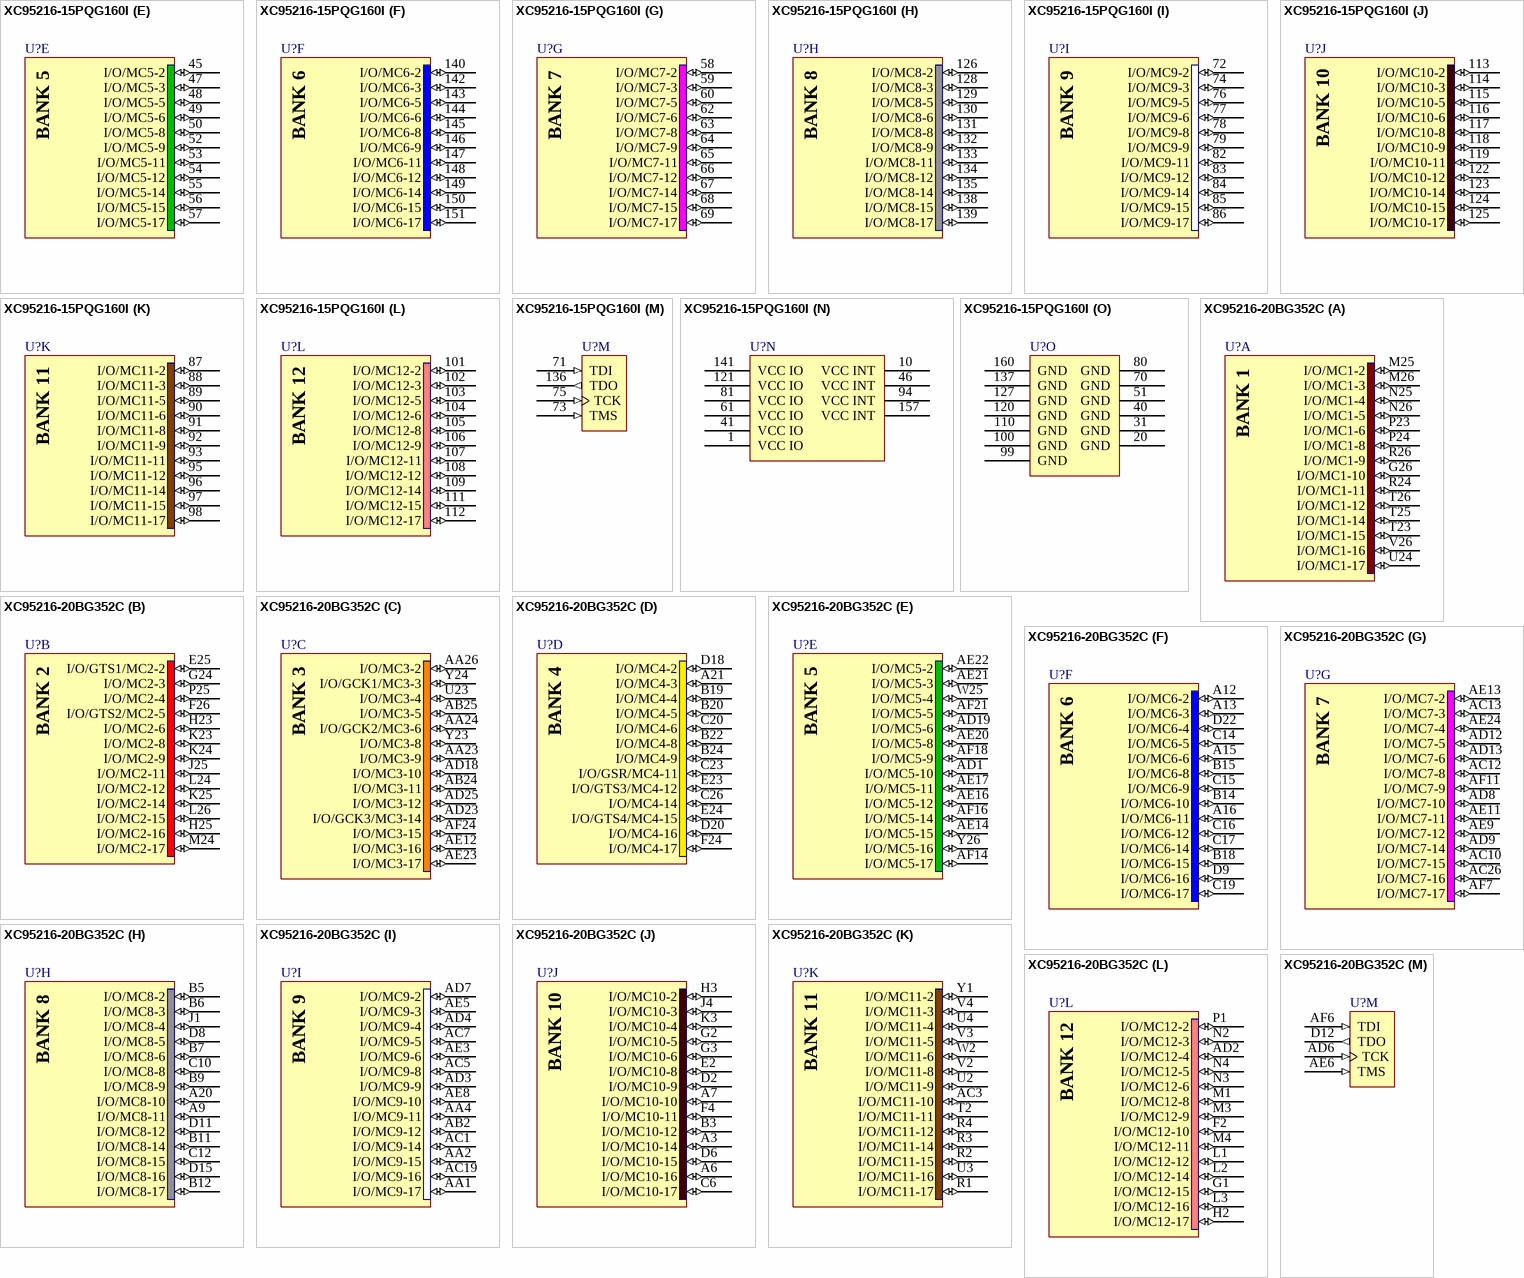
[diagram p62: symbols XC95216-15PQG160I to XC95216-20BG352C]

## XC95216-15PQG160I
designator U?
XC9500 5V, 216 Macrocell CPLD, 133 User I/Os, 160-Pin PQFP, Industrial Grade, Pb-Free; Published: 8-Sep-2006; LatestRevisionDate: 18-Nov-2009; LatestRevisionNote: Updated to family datasheet version 5.5 Jun-2007.; DatasheetVersion: ver4.4, Jun-2007; PackageVersion: ver1.2, Jun-2004; PackageReference: PQG160; Publisher: Altium Limited; PackageDescription: 160-Pin Plastic Quad Flat Pack (PQG160) - Pb-Free; Code_JEDEC: MS-022-DD1; Code_IPC: QFP65P3120X3120-160; ComponentLink1Description: XC95216 Datasheet; ComponentLink1URL: http://www.xilinx.com/support/documentation/data_sheets/ds068.pdf; ComponentLink2Description: PQG160 Package Drawing; ComponentLink2URL: http://www.xilinx.com/support/documentation/package_specs/pq160.pdf; ComponentLink3Description: XC9500 Documents; ComponentLink3URL: http://www.xilinx.com/support/documentation/xc9500.htm; ComponentLink4Description: Xilinx.com Home; ComponentLink4URL: http://www.xilinx.com
footprint PQG160_N (QFP, 160-Leads, Body 28x28mm, Pitch 0.65mm, IPC Medium Density)
footprint PQG160_L (QFP, 160-Leads, Body 28x28mm, Pitch 0.65mm, IPC High Density)
footprint PQG160_M (QFP, 160-Leads, Body 28x28mm, Pitch 0.65mm, IPC Low Density)
signal-integrity model XC95216_PQG160 (XC9500)
part A pins: 18 I/O/MC1-2 (io), 19 I/O/MC1-3 (io), 21 I/O/MC1-5 (io), 22 I/O/MC1-6 (io), 23 I/O/MC1-8 (io), 24 I/O/MC1-9 (io), 25 I/O/MC1-11 (io), 26 I/O/MC1-12 (io), 27 I/O/MC1-14 (io), 28 I/O/MC1-15 (io), 29 I/O/MC1-16 (io), 30 I/O/MC1-17 (io)
part B pins: 6 I/O/GTS1/MC2-2 (io), 7 I/O/MC2-3 (io), 8 I/O/GTS2/MC2-5 (io), 9 I/O/MC2-6 (io), 11 I/O/MC2-8 (io), 12 I/O/MC2-9 (io), 13 I/O/MC2-11 (io), 14 I/O/MC2-12 (io), 15 I/O/MC2-14 (io), 16 I/O/MC2-15 (io), 17 I/O/MC2-17 (io)
part C pins: 32 I/O/MC3-2 (io), 33 I/O/GCK1/MC3-3 (io), 34 I/O/MC3-5 (io), 35 I/O/GCK2/MC3-6 (io), 36 I/O/MC3-8 (io), 37 I/O/MC3-9 (io), 38 I/O/MC3-11 (io), 39 I/O/MC3-12 (io), 42 I/O/GCK3/MC3-14 (io), 43 I/O/MC3-15 (io), 44 I/O/MC3-17 (io)
part D pins: 2 I/O/GTS3/MC4-12 (io), 3 I/O/MC4-14 (io), 4 I/O/GTS4/MC4-15 (io), 5 I/O/MC4-17 (io), 152 I/O/MC4-2 (io), 153 I/O/MC4-3 (io), 154 I/O/MC4-5 (io), 155 I/O/MC4-6 (io), 156 I/O/MC4-8 (io), 158 I/O/MC4-9 (io), 159 I/O/GSR/MC4-11 (io)
part E pins: 45 I/O/MC5-2 (io), 47 I/O/MC5-3 (io), 48 I/O/MC5-5 (io), 49 I/O/MC5-6 (io), 50 I/O/MC5-8 (io), 52 I/O/MC5-9 (io), 53 I/O/MC5-11 (io), 54 I/O/MC5-12 (io), 55 I/O/MC5-14 (io), 56 I/O/MC5-15 (io), 57 I/O/MC5-17 (io)
part F pins: 140 I/O/MC6-2 (io), 142 I/O/MC6-3 (io), 143 I/O/MC6-5 (io), 144 I/O/MC6-6 (io), 145 I/O/MC6-8 (io), 146 I/O/MC6-9 (io), 147 I/O/MC6-11 (io), 148 I/O/MC6-12 (io), 149 I/O/MC6-14 (io), 150 I/O/MC6-15 (io), 151 I/O/MC6-17 (io)
part G pins: 58 I/O/MC7-2 (io), 59 I/O/MC7-3 (io), 60 I/O/MC7-5 (io), 62 I/O/MC7-6 (io), 63 I/O/MC7-8 (io), 64 I/O/MC7-9 (io), 65 I/O/MC7-11 (io), 66 I/O/MC7-12 (io), 67 I/O/MC7-14 (io), 68 I/O/MC7-15 (io), 69 I/O/MC7-17 (io)
part H pins: 126 I/O/MC8-2 (io), 128 I/O/MC8-3 (io), 129 I/O/MC8-5 (io), 130 I/O/MC8-6 (io), 131 I/O/MC8-8 (io), 132 I/O/MC8-9 (io), 133 I/O/MC8-11 (io), 134 I/O/MC8-12 (io), 135 I/O/MC8-14 (io), 138 I/O/MC8-15 (io), 139 I/O/MC8-17 (io)
part I pins: 72 I/O/MC9-2 (io), 74 I/O/MC9-3 (io), 76 I/O/MC9-5 (io), 77 I/O/MC9-6 (io), 78 I/O/MC9-8 (io), 79 I/O/MC9-9 (io), 82 I/O/MC9-11 (io), 83 I/O/MC9-12 (io), 84 I/O/MC9-14 (io), 85 I/O/MC9-15 (io), 86 I/O/MC9-17 (io)
part J pins: 113 I/O/MC10-2 (io), 114 I/O/MC10-3 (io), 115 I/O/MC10-5 (io), 116 I/O/MC10-6 (io), 117 I/O/MC10-8 (io), 118 I/O/MC10-9 (io), 119 I/O/MC10-11 (io), 122 I/O/MC10-12 (io), 123 I/O/MC10-14 (io), 124 I/O/MC10-15 (io), 125 I/O/MC10-17 (io)
part K pins: 87 I/O/MC11-2 (io), 88 I/O/MC11-3 (io), 89 I/O/MC11-5 (io), 90 I/O/MC11-6 (io), 91 I/O/MC11-8 (io), 92 I/O/MC11-9 (io), 93 I/O/MC11-11 (io), 95 I/O/MC11-12 (io), 96 I/O/MC11-14 (io), 97 I/O/MC11-15 (io), 98 I/O/MC11-17 (io)
part L pins: 101 I/O/MC12-2 (io), 102 I/O/MC12-3 (io), 103 I/O/MC12-5 (io), 104 I/O/MC12-6 (io), 105 I/O/MC12-8 (io), 106 I/O/MC12-9 (io), 107 I/O/MC12-11 (io), 108 I/O/MC12-12 (io), 109 I/O/MC12-14 (io), 111 I/O/MC12-15 (io), 112 I/O/MC12-17 (io)
part M pins: 71 TDI (in), 73 TMS (in), 75 TCK (in), 136 TDO (out)
part N pins: 1 VCC IO (power), 10 VCC INT (power), 41 VCC IO (power), 46 VCC INT (power), 61 VCC IO (power), 81 VCC IO (power), 94 VCC INT (power), 121 VCC IO (power), 141 VCC IO (power), 157 VCC INT (power)
part O pins: 20 GND (power), 31 GND (power), 40 GND (power), 51 GND (power), 70 GND (power), 80 GND (power), 99 GND (power), 100 GND (power), 110 GND (power), 120 GND (power), 127 GND (power), 137 GND (power), 160 GND (power)
part A text: BANK 1
part B text: BANK 2
part C text: BANK 3
part D text: BANK 4
part E text: BANK 5
part F text: BANK 6
part G text: BANK 7
part H text: BANK 8
part I text: BANK 9
part J text: BANK 10
part K text: BANK 11
part L text: BANK 12

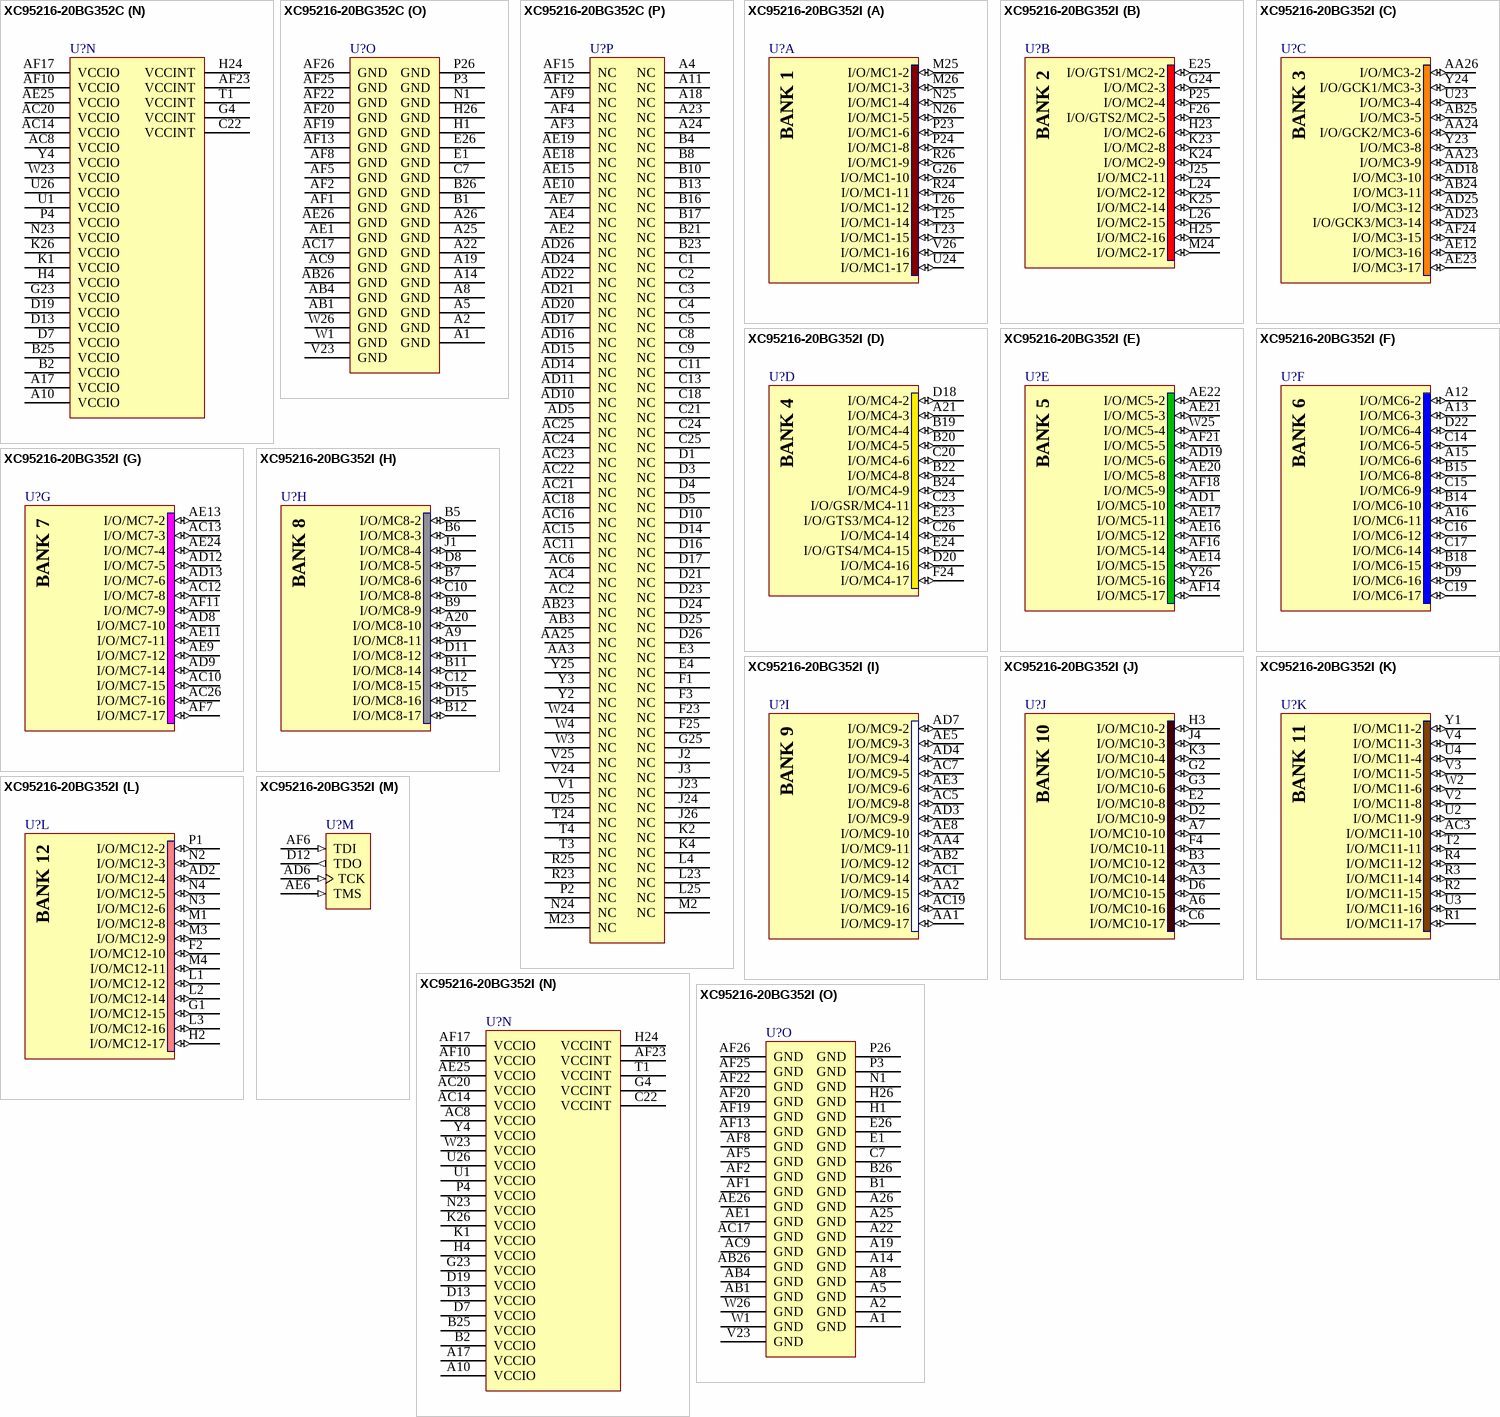
[diagram p63: symbols XC95216-20BG352C to XC95216-20BG352I]